# Altium schematic symbol library C-Connector.SchLib: 407 symbols (part 2 of 4)
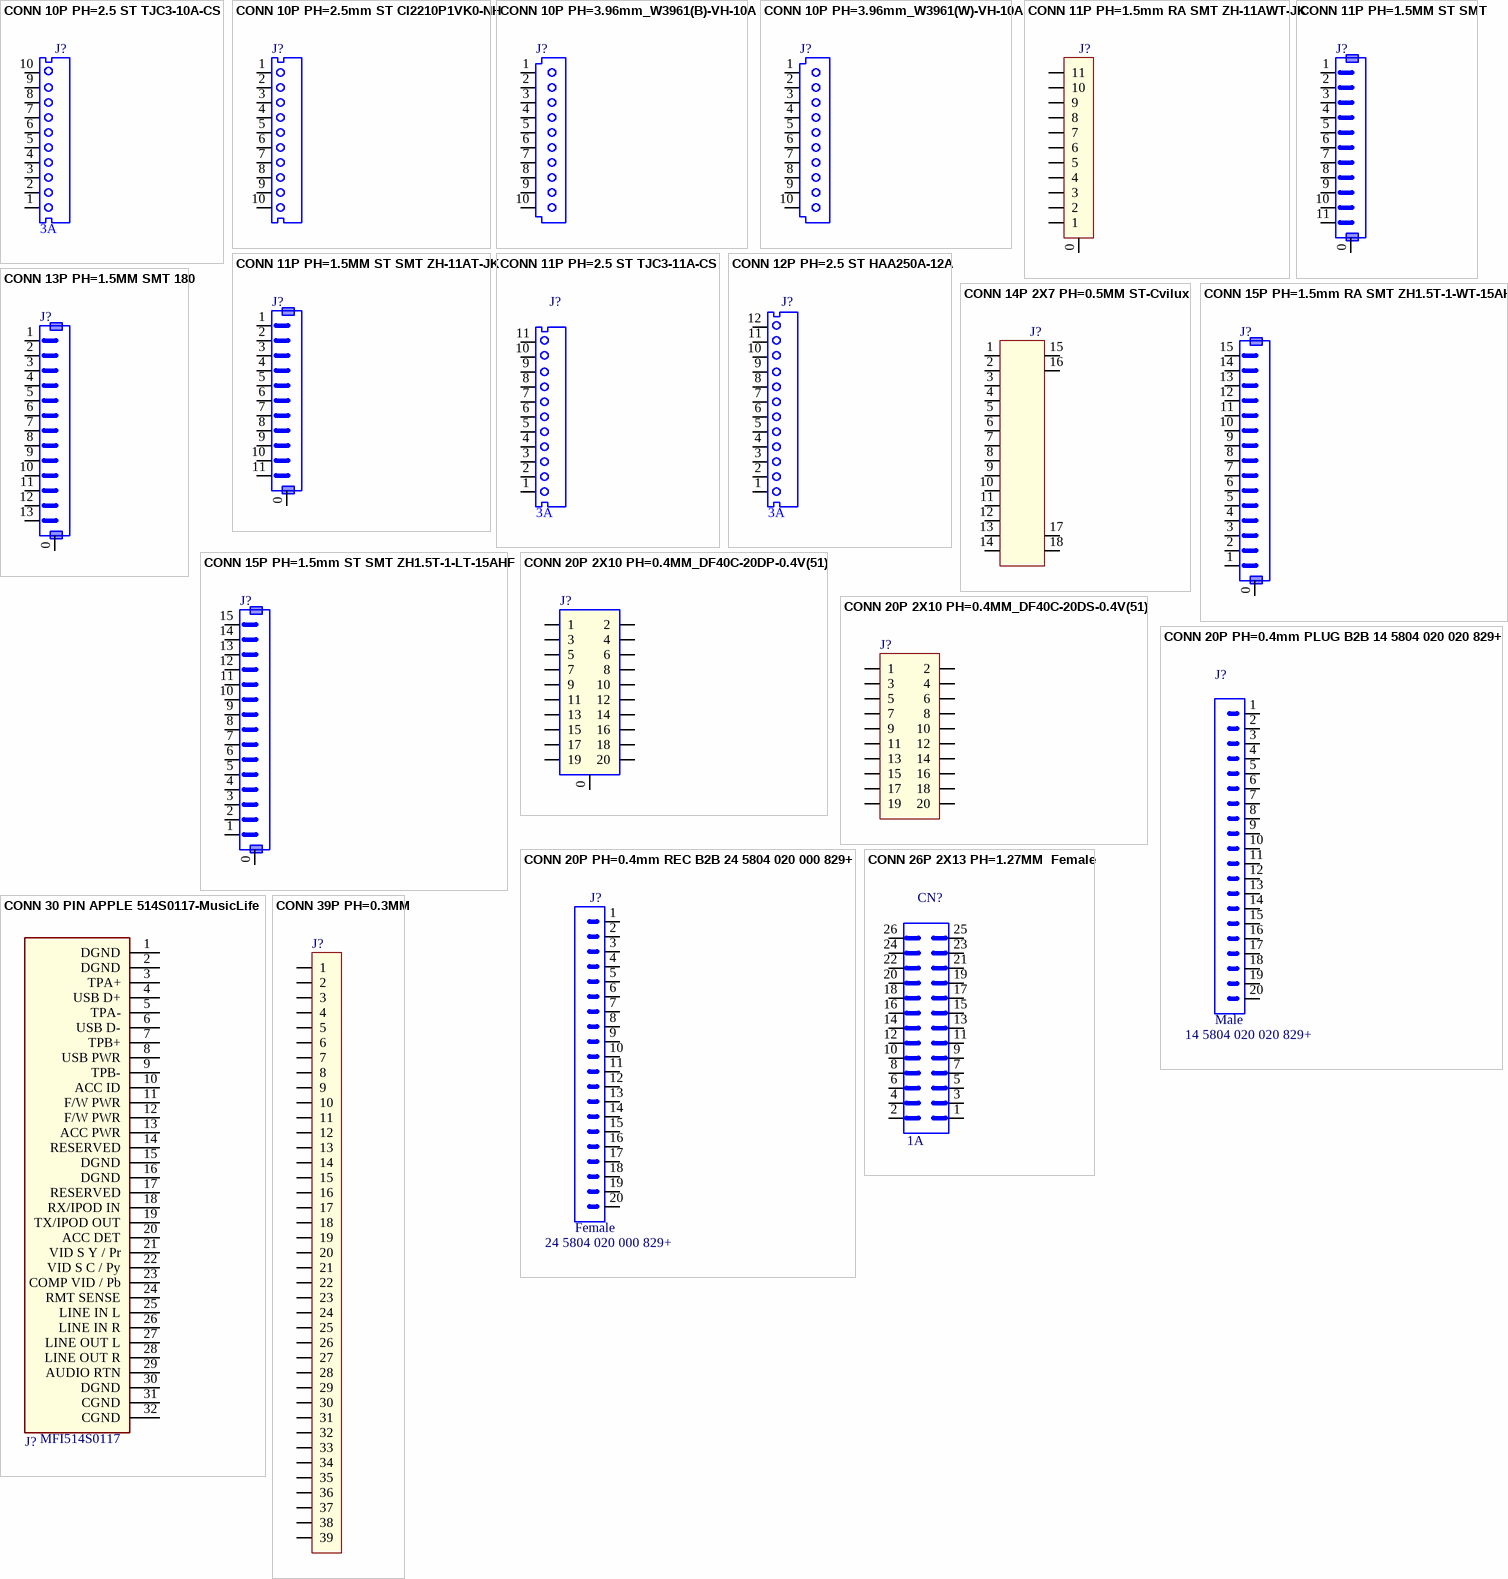
[diagram p15: symbols CONN 10P PH=2.5 ST TJC3-10A-CS to CONN 39P PH=0.3MM]

## CONN 11P PH=1.5MM ST SMT ZH-11AT-JK
designator J?, comment T690300109300  (value not drawn)
SMT CONNECTOR 11PIN P=1.5MM 90 NICKEL G; MFG Part: ZH-11AT-JK; CREATE_NAME: Nathan; MFG: JINJIA; CURRENT: 1.5A; DIP&SMD: SMD; CREATE_TIME: 12-Sep-2017; SAP: T690300109300; Vendor Name: *; Vendor code: *; Type: *; Package: *
footprint CONN 11P PH=1.5MM ST SMT ZH-11AT-JK (SMT CONNECTOR 11PIN P=1.5mm 90'单排镀锡)
pins: 0, 1, 2, 3, 4, 5, 6, 7, 8, 9, 10, 11

## CONN 11P PH=2.5 ST TJC3-11A-CS
designator J?, comment Current: 3A  (hidden comment: T690300109800)
CONNECTER 11PIN P=2.54 DIP180° K; MFG Part: TJC3-11A-CS; Value: 2.5mm; MFG: JINJIA; CREATE_NAME: Nathan; DIP&SMD: DIP; SAP: T690300109800; Vendor Name: *; Vendor Code: *; Type: Connector; CREATE_TIME: 11-Sep-2017
footprint CONN 11P PH=2.5 ST TJC3-11A-CS (GP CONNECTOR 11PIN P=2.5)
pins: 1, 2, 3, 4, 5, 6, 7, 8, 9, 10, 11

## CONN 12P PH=2.5 ST HAA250A-12A
designator J?, comment Current: 3A  (hidden comment: T690300029300)
CONNECTOR 12 PIN P:2.5MM P2.54-12 K; MFG Part: HAA250A-12A; Value: 2.5mm; MFG: 金科基; CREATE_NAME: Nathan; DIP&SMD: DIP; SAP: T690300029300; Vendor Name: *; Vendor Code: *; Type: Connector; CREATE_TIME: 10-Aug-2017
footprint CONN 12P PH=2.5 ST HAA250A-12A (GP CONNECTOR 12PIN P=2.5)
pins: 1, 2, 3, 4, 5, 6, 7, 8, 9, 10, 11, 12

## CONN 13P PH=1.5MM SMT 180
designator J?, comment CNC150020-0713  (value not drawn)
CONNECTOR 13PIN P=1.5mm 90'单排 GOLD 1.5T-LT-13A; CREATE_NAME: Tom; SAP: T690300047000; MFG: 金科基; CURRENT: 1.5A; DIP&SMD: SMD; CREATE_TIME: 12-May-2015; MFG Part: *; Vendor Name: *; Vendor code: *; Type: *; Package: *
footprint CONN 13P PH=1.5MM SMT 180 (SMT CONNECTOR 13PIN P=1.5mm 90'单排镀锡)
pins: 0, 1, 2, 3, 4, 5, 6, 7, 8, 9, 10, 11, 12, 13

## CONN 14P 2X7 PH=0.5MM ST-Cvilux
designator J?, comment T690300062300  (value not drawn)
CON\CF2014_.5MM_HLD_1 G; MFG Part: CF20141V0R0-NH; MFG: 瀚荃; Value: 0.5mm; CREATE_NAME: Tom; DIP&SMD: SMD; SAP: T690300062300; Vendor Name: *; Vendor Code: *; Tolerance: *; Type: Connector; CREATE_TIME: 26-Feb-2016
footprint CONN 14P 2X7 PH=0.5MM ST-Cvilux
pins: 1, 2, 3, 4, 5, 6, 7, 8, 9, 10, 11, 12, 13, 14, 15, 16, 17, 18

## CONN 15P PH=1.5mm RA SMT ZH1.5T-1-WT-15AHF
designator J?, comment T690300136800  (value not drawn)
CONNECTOR 15PIN 1.5MM M180 JRC L; MFG Part: ZH1.5T-1-WT-15AHF; CREATE_NAME: Nathan; DIP&SMD: SMD; Value: 1.5mm; SAP: T690300136800; MFG: JRC; Vendor Name: *; Vendor Code: *; Type: Connector; CREATE_TIME: 28-Mar-2018; Current: *
footprint CONN 15P PH=1.5mm RA SMT ZH1.5T-1-WT-15AHF (GP CHIP CONNECTOR 15P PH=1.5mm H37mm)
pins: 0, 1, 2, 3, 4, 5, 6, 7, 8, 9, 10, 11, 12, 13, 14, 15

## CONN 15P PH=1.5mm ST SMT ZH1.5T-1-LT-15AHF
designator J?, comment T690300136600  (value not drawn)
CONNECTOR 15PIN 1.5MM M90 JRC L; MFG Part: ZH1.5T-1-LT-15AHF; CREATE_NAME: Nathan; DIP&SMD: SMD; Value: 1.5mm; SAP: T690300136600; MFG: JRC; Vendor Name: *; Vendor Code: *; Type: Connector; CREATE_TIME: 28-Mar-2018; Current: *
footprint CONN 15P PH=1.5mm ST SMT ZH1.5T-1-LT-15AHF (GP CHIP CONNECTOR 15P PH=1.5mm H5mm)
pins: 0, 1, 2, 3, 4, 5, 6, 7, 8, 9, 10, 11, 12, 13, 14, 15

## CONN 20P 2X10 PH=0.4MM_DF40C-20DP-0.4V(51)
designator J?, comment T690300164500  (value not drawn)
CONN 2*10P P0.4 DF40C-20DP-0.4V(51) K; CREATE_NAME: Tom; MFG: HIROSE; DIP&SMD: SMD; CREATE_TIME: 10-Apr-2019; MFG Part: DF40C-20DP-0.4V(51); SAP: T690300164500; Type: Connector
footprint CONN 20P 2X10 PH=0.4MM_DF40C-20DP-0.4V(51)
pins: 0, 1, 2, 3, 4, 5, 6, 7, 8, 9, 10, 11, 12, 13, 14, 15, 16, 17, 18, 19, 20

## CONN 20P 2X10 PH=0.4MM_DF40C-20DS-0.4V(51)
designator J?, comment T690300164700  (value not drawn)
CONN 2*10P P0.4 DF40C-20DS-0.4V(51) K; CREATE_NAME: Tom; MFG: HIROSE; DIP&SMD: SMD; CREATE_TIME: 10-Apr-2019; MFG Part: DF40C-20DS-0.4V(51); SAP: T690300164700; Type: Connector
footprint CONN 20P 2X10 PH=0.4MM_DF40C-20DS-0.4V(51)
pins: 1, 2, 3, 4, 5, 6, 7, 8, 9, 10, 11, 12, 13, 14, 15, 16, 17, 18, 19, 20

## CONN 20P PH=0.4mm PLUG B2B 14 5804 020 020 829+
designator J?, comment MFG Part: 14 5804 020 020 829+  Remark: Male  (hidden comment: T690300129500)
PLUG 20PIN0.5MM BTB MALE FPC CONNECTOR K; MFG: KYOCERA; CREATE_NAME: Nathan; DIP&SMD: SMD; SAP: T690300129500; Current: *; Type: Connector; CREATE_TIME: 22-Jan-2018
footprint CONN 20P PH=0.4mm PLUG B2B 14 5804 020 020 829+ (SERIES 5804 PLUG 0.4mm PITCH BOARD TO BOARD H=0.9 PRESS-FIT 14 5804 020 020 829+)
pins: 1, 2, 3, 4, 5, 6, 7, 8, 9, 10, 11, 12, 13, 14, 15, 16, 17, 18, 19, 20

## CONN 20P PH=0.4mm REC B2B 24 5804 020 000 829+
designator J?, comment MFG Part: 24 5804 020 000 829+  Remark: Female  (hidden comment: T690300129600)
REC 20PIN 0.5MM BTB FEMALE FPC CONNECT K; MFG: KYOCERA; CREATE_NAME: Nathan; DIP&SMD: SMD; SAP: T690300129600; Current: *; Type: Connector; CREATE_TIME: 22-Jan-2018
footprint CONN 20P PH=0.4mm REC B2B 24 5804 020 000 829+ (SERIES 5804 REC SLIM-TYPE 0.4mm PITCH BOARD TO BOARD h=0.9  24 5804 020 000 829+)
pins: 1, 2, 3, 4, 5, 6, 7, 8, 9, 10, 11, 12, 13, 14, 15, 16, 17, 18, 19, 20

## CONN 26P 2X13 PH=1.27MM  Female
designator CN?, comment Current: 1A  (hidden comment: CNC127010-0626)
CHIP CONNECTOR 26PIN 1.27P 90' 带内柱; MFG Part: CONN 26P 2X13 PH=1.27MM  Female; SAP: T690300017900; MFG: ShenZhen JRConn Electronics; CREATE_NAME: Evan@Deftronics; DIP&SMD: SMD; Vendor Name: *; Vendor Code: *; CREATE_TIME: 16-Jul-2014; Type: Connector; Value: *
footprint CONN 26P 2X13 PH=1.27MM  Female
pins: 1, 2, 3, 4, 5, 6, 7, 8, 9, 10, 11, 12, 13, 14, 15, 16, 17, 18, 19, 20, 21, 22, 23, 24, 25, 26

## CONN 30 PIN APPLE 514S0117-MusicLife
designator J?, comment MFG Part: MFI514S0117  (hidden comment: CJFA30001-5003)
IPOD CONNECTOR SMD 30P 0.5mm Music Life; SAP: T690300042200; Vendor Code: 10020189; Vendor Name: AVNET ASIA PTE LTD,TAIWAN BRANCH; MFG: AVNET; Type: Connector; DIP&SMD: SMD
footprint CONN APPLE 514S0117 (Apple 30 PIN APPLE 514S0117 15 DEG VERT UNIVERSAL DOCK)
pins: 1 DGND, 2 DGND, 3 TPA+, 4 USB D+, 5 TPA-, 6 USB D-, 7 TPB+, 8 USB PWR, 9 TPB-, 10 ACC ID, 11 F/W PWR, 12 F/W PWR, 13 ACC PWR, 14 RESERVED, 15 DGND, 16 DGND, 17 RESERVED, 18 RX/IPOD IN, 19 TX/IPOD OUT, 20 ACC DET, 21 VID S Y / Pr, 22 VID S C / Py, 23 COMP VID / Pb, 24 RMT SENSE, 25 LINE IN L, 26 LINE IN R, 27 LINE OUT L, 28 LINE OUT R, 29 AUDIO RTN, 30 DGND, 31 CGND, 32 CGND

## CONN 39P PH=0.3MM
designator J?, comment T690300159500  (value not drawn)
F302-39115 K; Value: 0.3mm; MFG: YAQI; CREATE_NAME: Tom; DIP&SMD: SMD; SAP: T690300159500; MFG Part: F302-39115; Vendor Name: *; Vendor Code: *; Type: Connector; CREATE_TIME: 23-Jan-2019
footprint CONN 39P PH=0.3MM
pins: 1, 2, 3, 4, 5, 6, 7, 8, 9, 10, 11, 12, 13, 14, 15, 16, 17, 18, 19, 20, 21, 22, 23, 24, 25, 26, 27, 28, 29, 30, 31, 32, 33, 34, 35, 36, 37, 38, 39

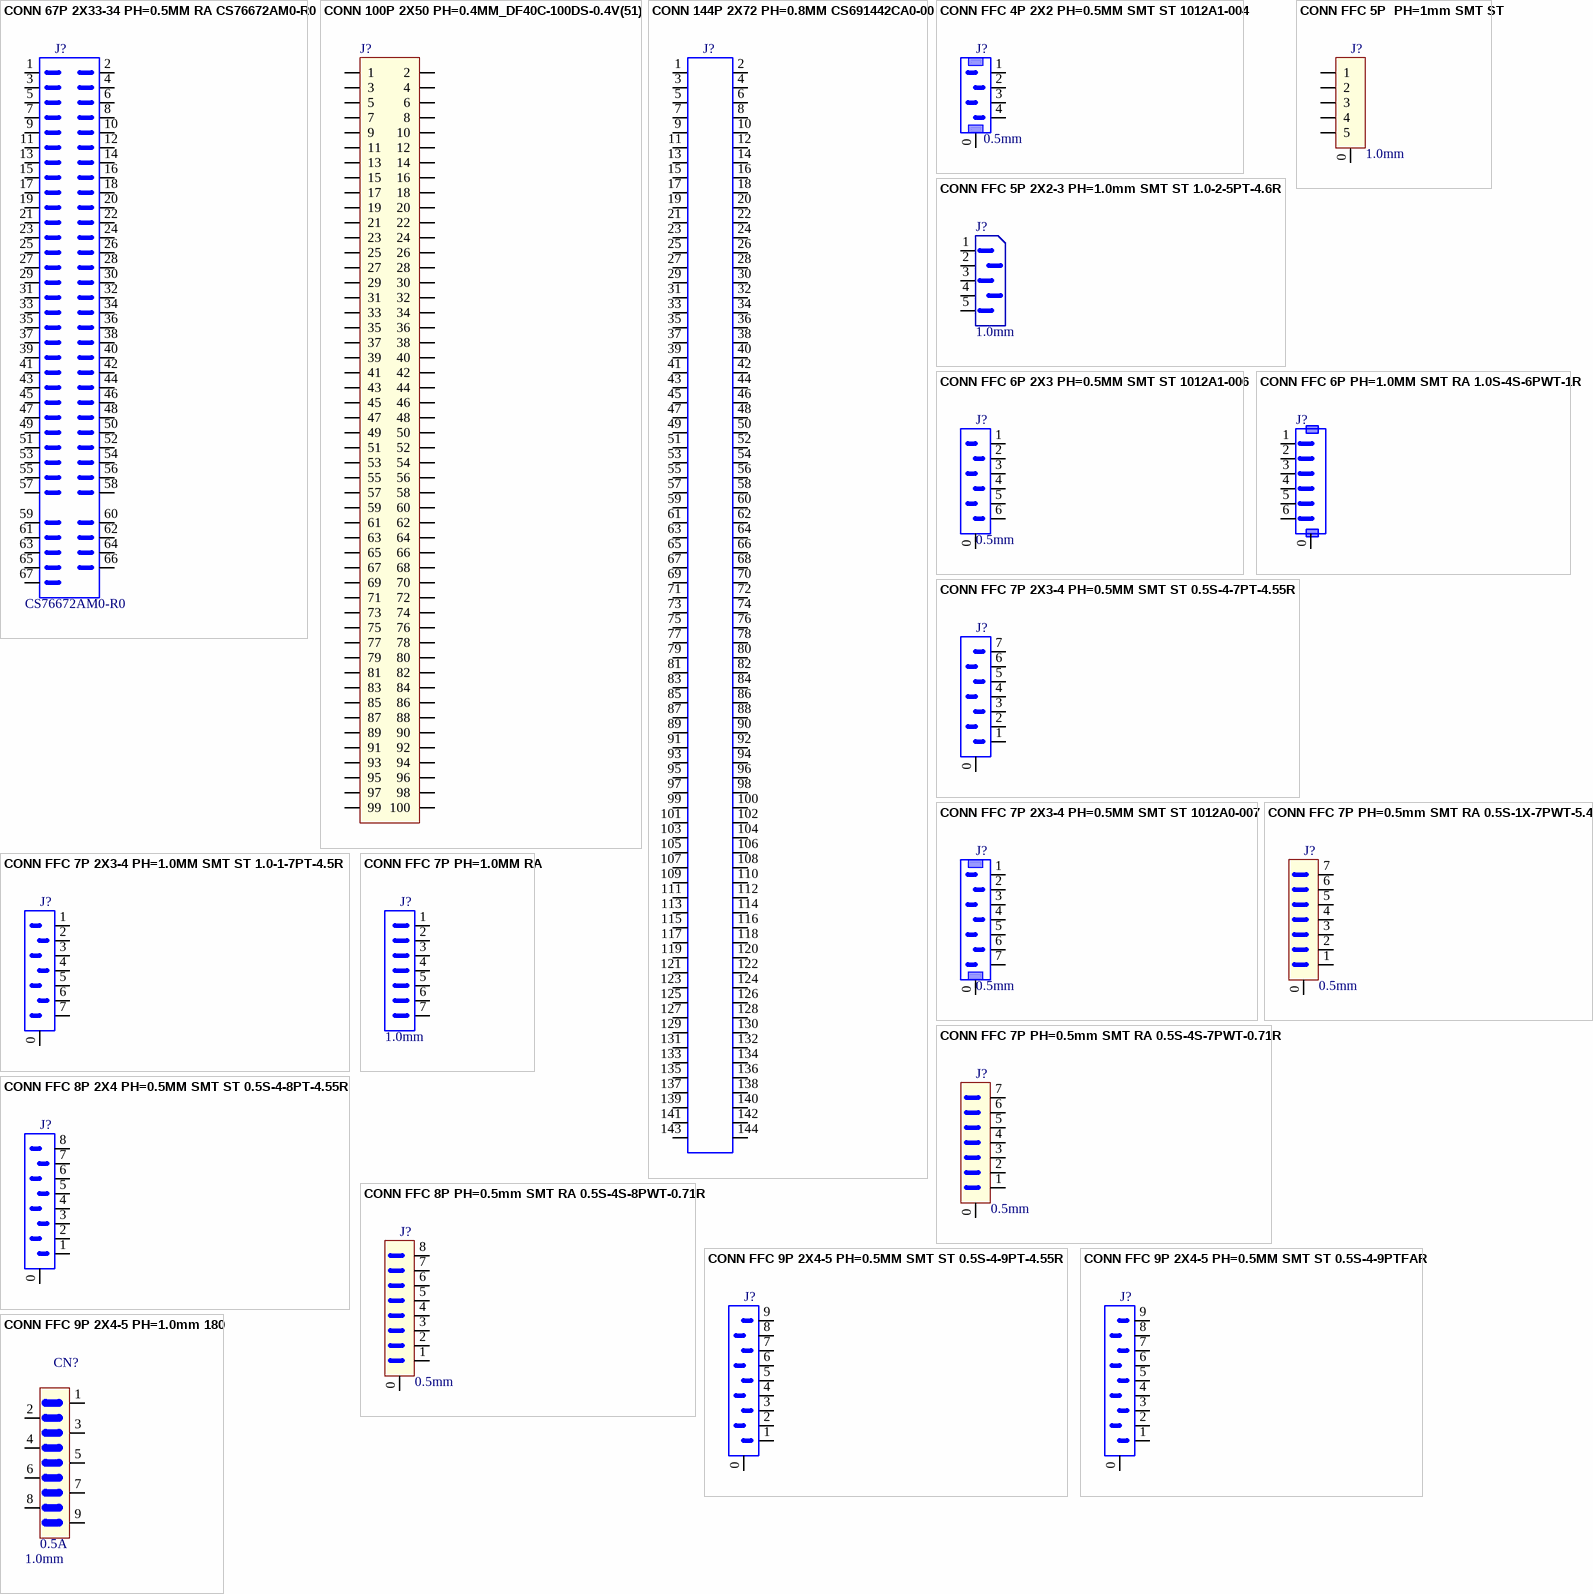
[diagram p4: symbols CONN 67P 2X33-34 PH=0.5MM RA CS76672AM0-R0 to CONN FFC 9P 2X4-5 PH=1.0mm 180]

## CONN 67P 2X33-34 PH=0.5MM RA CS76672AM0-R0
designator J?, comment MFG Part: CS76672AM0-R0  (hidden comment: T690300108100)
SOCKET 67PIN P0.5 CS76672AM0-R0 K; MFG: CviLux; CREATE_NAME: Nathan; DIP&SMD: SMD; Vendor Code: *; Vendor Name: *; TYPE: Connector; CREATE_TIME: 18-Apr-2017; SAP: T690300108100
footprint CONN 67P 2X33-34 PH=0.5MM CS76672AM0-R0 (NGFF Connectors SOCKET. (67Pin.))
pins: 1, 2, 3, 4, 5, 6, 7, 8, 9, 10, 11, 12, 13, 14, 15, 16, 17, 18, 19, 20, 21, 22, 23, 24, 25, 26, 27, 28, 29, 30, 31, 32, 33, 34, 35, 36, 37, 38, 39, 40, 41, 42, 43, 44, 45, 46, 47, 48, 49, 50, 51, 52, 53, 54, 55, 56, 57, 58, 59, 60, 61, 62, 63, 64, 65, 66, 67

## CONN 100P 2X50 PH=0.4MM_DF40C-100DS-0.4V(51)
designator J?, comment T690300164800  (value not drawn)
CONN 2*50P P0.4 DF40C-100DS-0.4V(51) K; CREATE_NAME: Tom; MFG: HIROSE; DIP&SMD: SMD; CREATE_TIME: 10-Apr-2019; MFG Part: DF40C-100DS-0.4V(51); SAP: T690300164800; Type: Connector
footprint CONN 100P 2X50 PH=0.4MM_DF40C-100DS-0.4V(51)
pins: 1, 2, 3, 4, 5, 6, 7, 8, 9, 10, 11, 12, 13, 14, 15, 16, 17, 18, 19, 20, 21, 22, 23, 24, 25, 26, 27, 28, 29, 30, 31, 32, 33, 34, 35, 36, 37, 38, 39, 40, 41, 42, 43, 44, 45, 46, 47, 48, 49, 50, 51, 52, 53, 54, 55, 56, 57, 58, 59, 60, 61, 62, 63, 64, 65, 66, 67, 68, 69, 70, 71, 72, 73, 74, 75, 76, 77, 78, 79, 80, 81, 82, 83, 84, 85, 86, 87, 88, 89, 90, 91, 92, 93, 94, 95, 96, 97, 98, 99, 100

## CONN 144P 2X72 PH=0.8MM CS691442CA0-00
designator J?, comment T690300108200  (value not drawn)
DDR SO-DIMM SOCKET 144P 2X72 PH=0.8MM CS691442CA0-00; MFG: CviLux; CREATE_NAME: Nathan; DIP&SMD: SMD; Vendor Code: *; Vendor Name: *; TYPE: Connector; CREATE_TIME: 14-Apr-2017; SAP: T690300108200; MFG Part: CS691442CA0-00
footprint CONN 144P 2X72 PH=0.8MM CS691442CA0-00 (DDR S.O DIMM SOCKET. (144Pin.))
pins: 1, 2, 3, 4, 5, 6, 7, 8, 9, 10, 11, 12, 13, 14, 15, 16, 17, 18, 19, 20, 21, 22, 23, 24, 25, 26, 27, 28, 29, 30, 31, 32, 33, 34, 35, 36, 37, 38, 39, 40, 41, 42, 43, 44, 45, 46, 47, 48, 49, 50, 51, 52, 53, 54, 55, 56, 57, 58, 59, 60, 61, 62, 63, 64, 65, 66, 67, 68, 69, 70, 71, 72, 73, 74, 75, 76, 77, 78, 79, 80, 81, 82, 83, 84, 85, 86, 87, 88, 89, 90, 91, 92, 93, 94, 95, 96, 97, 98, 99, 100, 101, 102, 103, 104, 105, 106, 107, 108, 109, 110, 111, 112, 113, 114, 115, 116, 117, 118, 119, 120, 121, 122, 123, 124, 125, 126, 127, 128, 129, 130, 131, 132, 133, 134, 135, 136, 137, 138, 139, 140, 141, 142, 143, 144

## CONN FFC 4P 2X2 PH=0.5MM SMT ST 1012A1-004
designator J?, comment value 0.5mm  (hidden comment: T690300113600)
FFC\FPC 4PIN P0.5 1012A1-004-1P1 K; MFG: 金科基; CREATE_NAME: Nathan; Current: 0.5A; DIP&SMD: SMD; SAP: T690300113600; MFG Part: 1012A1-004-1P1; Vendor Name: *; Vendor Code: *; Type: Connector; CREATE_TIME: 28-July-2015
footprint CONN FPC 4P 2X2 PH=0.5mm SMT ST 1012A1-004 (GP CHIP CONNECTOR 4P PH=0.5mm H4.65mm)
pins: 0, 1, 2, 3, 4

## CONN FFC 5P 2X2-3 PH=1.0mm SMT ST 1.0-2-5PT-4.6R
designator J?, comment value 1.0mm  (hidden comment: T690300128900)
CHIP CONNECTOR 5PIN P:1.0MM 90 K; MFG Part: 1.0-2-5PT-4.6R; MFG: 金佳; CREATE_NAME: Nathan; DIP&SMD: SMD; SAP: T690300128900; Vendor Code: *; Vendor Name: *; CREATE_TIME: 28-Dec-2017; Type: Connector; Voltage: *; Current: *
footprint CONN FFC 5P 2X2-3 PH=1.0mm SMT ST 1.0-2-5PT-4.6R (CHIP CONNECTOR 5P P=1.0mm SMT ST)
pins: 1, 2, 3, 4, 5

## CONN FFC 5P  PH=1mm SMT ST
designator J?, comment value 1.0mm  (hidden comment: T690300096200)
CHIP CONNECTOR FFC 5P P:1.0MM 90 G; MFG Part: 1.0-1-5PT-4.5R; MFG: 金佳电子; CREATE_NAME: Tom; DIP&SMD: SMD; SAP: T690300096200; Vendor Name: *; Vendor Code: *; CREATE_TIME: 22-Dec-2016; Type: Connector; Current: *
footprint CONN FFC 5P  PH=1mm SMT ST
pins: 0, 1, 2, 3, 4, 5

## CONN FFC 6P 2X3 PH=0.5MM SMT ST 1012A1-006
designator J?, comment value 0.5mm  (hidden comment: T690300105800)
SMT CONNECTOR 0.5MM 6PIN 90° K; MFG Part: 1012A1-006-1P1; MFG: 金科基; CREATE_NAME: Nathan; Current: 0.5A; DIP&SMD: SMD; SAP: T690300105800; Vendor Name: *; Vendor Code: *; Type: Connector; CREATE_TIME: 06-Mar-2015; Customer Specific: N/A
footprint CONN FFC 6P 2X3 PH=0.5mm SMT ST 1012A1-006 (GP CHIP CONNECTOR 6P PH=0.5mm H5.45mm)
pins: 0, 1, 2, 3, 4, 5, 6

## CONN FFC 6P PH=1.0MM SMT RA 1.0S-4S-6PWT-1R
designator J?, comment T690300144100  (value not drawn)
FFC\FPC 6PIN P1.0 F\90 1.0S-4S-6PWT-1R K; Value: 1.0mm; MFG: 金佳; CREATE_NAME: Cherry Chen; DIP&SMD: SMD; SAP: T690300144100; MFG Part: 1.0S-4S-6PWT-1R; Vendor Name: *; Vendor Code: *; Type: Connector; CREATE_TIME: 2018-06-08
footprint CONN FFC 6P PH=1mm SMT RA 1.0S-4S-6PWT-1R (CONN FFC 6P PH=1mm SMT RA)
pins: 0, 1, 2, 3, 4, 5, 6

## CONN FFC 7P 2X3-4 PH=0.5MM SMT ST 0.5S-4-7PT-4.55R
designator J?, comment T690300146600  (value not drawn)
CONNECTOR 7PIN P=0.5MM 90° JINJIA SMD K; MFG Part: 0.5S-4-7PT-4.55R; MFG: 金佳; CREATE_NAME: Nathan; Current: 0.5A; Value: 0.5mm; SAP: T690300146600; Vendor Name: *; Vendor Code: *; Type: Connector; CREATE_TIME: 09-July-2018; DIP&SMD: SMD
footprint CONN FFC 7P PH=0.5MM SMT ST 0.5S-4-7PT-4.55R (CHIP FFC CONNECTOR 7PIN 0.5P ST)
pins: 0, 1, 2, 3, 4, 5, 6, 7

## CONN FFC 7P 2X3-4 PH=0.5MM SMT ST 1012A0-007
designator J?, comment value 0.5mm  (hidden comment: T690300052200)
CONNECTOR 7PIN P=0.5MM 90° SMD G; MFG Part: 1012A0-007-1P1; MFG: 金瑞康; CREATE_NAME: Nathan; Current: 0.5A; SAP: T690300052200; Vendor Name: *; Vendor Code: *; Type: Connector; CREATE_TIME: 17-Sep-2015; DIP&SMD: SMD
footprint CONN FFC 7P 2X3-4 PH=0.5mm SMT ST 1012A0-007 (GP CHIP CONNECTOR 7P PH=0.5mm H4.63mm)
pins: 0, 1, 2, 3, 4, 5, 6, 7

## CONN FFC 7P 2X3-4 PH=1.0MM SMT ST 1.0-1-7PT-4.5R
designator J?, comment T690300101300  (value not drawn)
CHIP CONNECTOR FFC 7P P:1.0MM 90; MFG Part: 1.0-1-7PT-4.5R; MFG: 金佳; CREATE_NAME: Joe Chen; Current: 0.5A; Value: 1.0mm; DIP&SMD: SMD; SAP: T690300101300; Vendor Name: *; Vendor Code: *; Type: Connector; CREATE_TIME: 13-Feb-2017
footprint CONN FFC 7P 2X3-4  PH=1.0mm SMT ST 1.0-1-7PT-4.5 (CONN FFC 7P DR 90' 1.0-1-7PT-4.5)
pins: 0, 1, 2, 3, 4, 5, 6, 7

## CONN FFC 7P PH=0.5mm SMT RA 0.5S-1X-7PWT-5.4R
designator J?, comment value 0.5mm  (hidden comment: T690300153400)
CONNECTOR FFC 7P P:0.5MM 180; MFG Part: 0.5S-1X-7PWT-5.4R; MFG: 金佳; CREATE_NAME: Nathan; DIP&SMD: SMD; Vendor Code: *; Vendor Name: *; TYPE: Connector; CREATE_TIME: 11-OCT-2018; SAP: T690300153400; Current: *
footprint CONN FFC 7P PH=0.5mm SMT RA 0.5S-1X-7PWT-5.4R (SMD FFC CONNECTOR 7P P=0.5mm RA SR)
pins: 0, 1, 2, 3, 4, 5, 6, 7

## CONN FFC 7P PH=0.5mm SMT RA 0.5S-4S-7PWT-0.71R
designator J?, comment value 0.5mm  (hidden comment: T690300146500)
CONNECTOR 7PIN P=0.5MM 180' JINJIA SMD K; MFG Part: 0.5S-4S-7PWT-0.71R; MFG: 金佳; CREATE_NAME: Nathan; Current: 0.5A; Vendor Code: *; Vendor Name: *; TYPE: Connector; CREATE_TIME: 09-July-2018; SAP: T690300146500; DIP&SMD: SMD
footprint CONN FFC 7P PH=0.5mm SMT RA 0.5S-4S-7PWT-0.71R (SMD FFC CONNECTOR 7P P=0.5mm RA SR)
pins: 0, 1, 2, 3, 4, 5, 6, 7

## CONN FFC 7P PH=1.0MM RA
designator J?, comment value 1.0mm  (hidden comment: T690300060200)
7P 1.0 1.0-1-7PWT-5.8 SMD; MFG: 金佳; CREATE_NAME: Tom; SAP: T690300060200; Vendor Name: *; Vendor Code: *; CREATE_TIME: 20-Nov-2015; MFG Part: 1.0 1.0-1-7PWT-5.8 SMD; Type: Connector; Current: *; DIP&SMD: SMD
footprint CONN FFC 7P PH=1.0MM RA
pins: 1, 2, 3, 4, 5, 6, 7

## CONN FFC 8P 2X4 PH=0.5MM SMT ST 0.5S-4-8PT-4.55R
designator J?, comment T690300151000  (value not drawn)
SMT CONNECTOR 0.5MM 8PIN 90° K; MFG Part: 0.5S-4-8PT-4.55R; MFG: 金佳; CREATE_NAME: Nathan; Current: 0.5A; DIP&SMD: SMD; SAP: T690300151000; Vendor Name: *; Vendor Code: *; Type: Connector; CREATE_TIME: 04-Sep-2018; Value: 0.5mm
footprint CONN FFC 8P PH=0.5MM SMT ST 0.5S-4-8PT-4.55R (CHIP FFC CONNECTOR 8PIN 0.5P ST)
pins: 0, 1, 2, 3, 4, 5, 6, 7, 8

## CONN FFC 8P PH=0.5mm SMT RA 0.5S-4S-8PWT-0.71R
designator J?, comment value 0.5mm  (hidden comment: T690300157200)
SMT CONNECTOR 0.5MM 8PIN 90' K; MFG Part: 0.5S-4S-8PWT-0.71R; MFG: 金佳; CREATE_NAME: Nathan; Current: 0.5A; DIP&SMD: SMD; Vendor Code: *; Vendor Name: *; TYPE: Connector; CREATE_TIME: 12-Dec-2018; SAP: T690300157200
footprint CONN FFC 8P PH=0.5mm SMT RA 0.5S-4S-8PWT-0.71R (SMD FFC CONNECTOR 8P P=0.5mm RA SR)
pins: 0, 1, 2, 3, 4, 5, 6, 7, 8

## CONN FFC 9P 2X4-5 PH=0.5MM SMT ST 0.5S-4-9PT-4.55R
designator J?, comment T690300139100  (value not drawn)
9PIN 0.5P 90 K; MFG Part: 0.5S-4-9PT-4.55R; MFG: 金佳; CREATE_NAME: Nathan; Current: 0.5A; Value: 0.5mm; DIP&SMD: SMD; SAP: T690300139100; Vendor Name: *; Vendor Code: *; Type: Connector; CREATE_TIME: 25-Apr-2018
footprint CONN FFC 9P PH=0.5MM SMT ST 0.5S-4-9PT-4.55R (CHIP FFC CONNECTOR 9PIN 0.5P ST)
pins: 0, 1, 2, 3, 4, 5, 6, 7, 8, 9

## CONN FFC 9P 2X4-5 PH=0.5MM SMT ST 0.5S-4-9PTFAR
designator J?, comment T690300163000  (value not drawn)
FFC CONNECTOR 9P 0.5MM GOLD PLATED L; MFG Part: 0.5S-4-9PTFAR; MFG: 金佳; CREATE_NAME: Nathan; Current: 0.5A; DIP&SMD: SMD; SAP: T690300163000; Vendor Name: *; Vendor Code: *; Type: Connector; CREATE_TIME: 19-Mar-2019; Value: 0.5mm
footprint CONN FFC 9P PH=0.5MM SMT ST 0.5S-4-9PTFAR (CHIP FFC CONNECTOR 9PIN 0.5P ST)
pins: 0, 1, 2, 3, 4, 5, 6, 7, 8, 9

## CONN FFC 9P 2X4-5 PH=1.0mm 180
designator CN?, comment value 1.0mm  Current: 0.5A  (hidden comment: CNC100020-0509)
CHIP CONNECTOR FFC 9P P=1.0mm 90'; SAP: T690300016500; Vendor Name: 利民丰; CREATE_NAME: GordonL@Deftronics; DIP&SMD: SMD; MFG: *; CREATE_TIME: 21-Apr-2014; MFG Part: *; Type: Connector
footprint CONN FFC 9P 2X4-5 PH=1.0mm 180 (Connector FFC 9P Pitch 1.0mm Width 2.5mm)
pins: 1, 2, 3, 4, 5, 6, 7, 8, 9

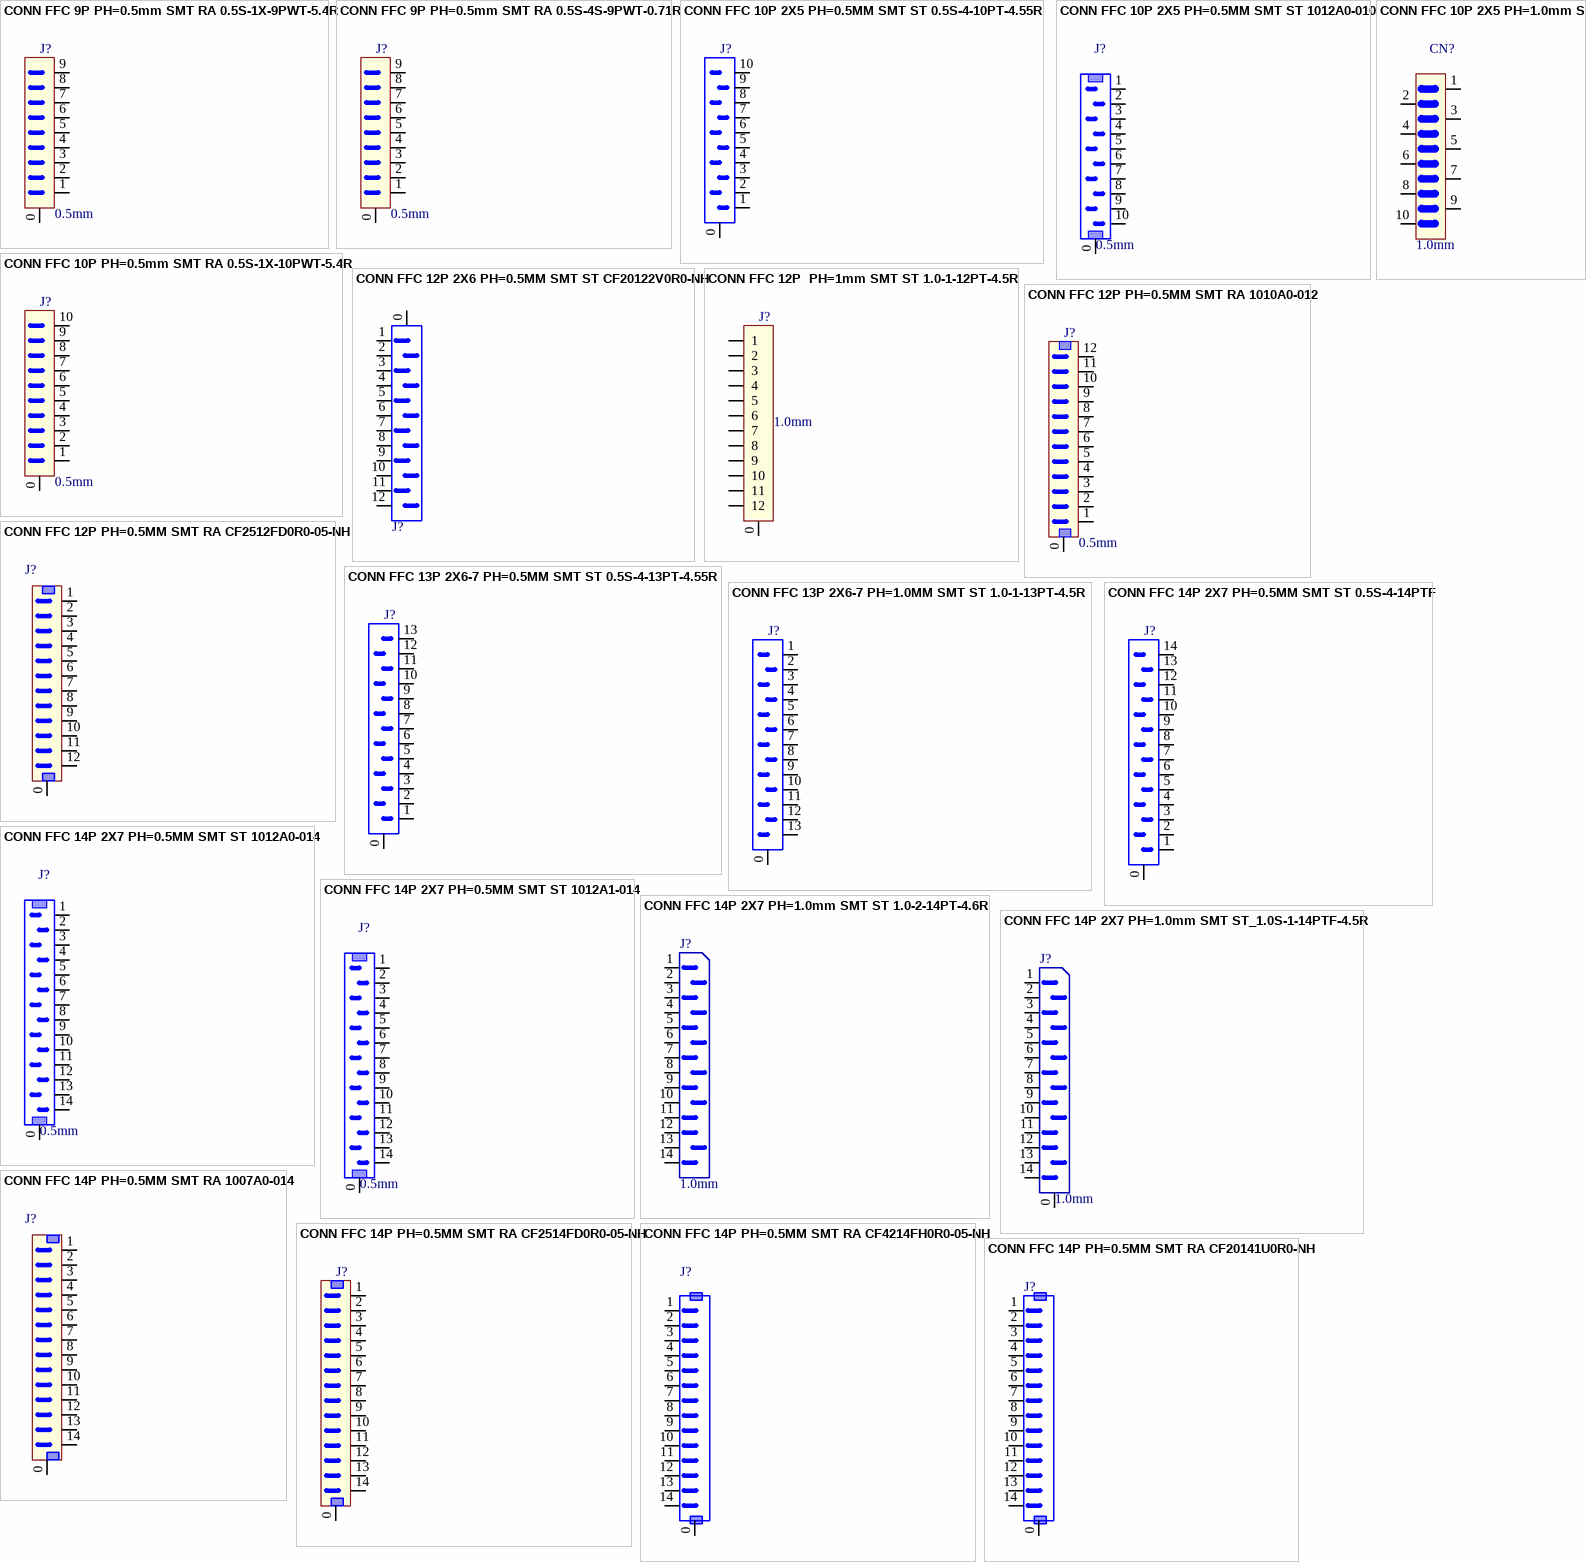
[diagram p5: symbols CONN FFC 9P PH=0.5mm SMT RA 0.5S-1X-9PWT-5.4R to CONN FFC 14P PH=0.5MM SMT RA CF20141U0R0-NH]

## CONN FFC 9P PH=0.5mm SMT RA 0.5S-1X-9PWT-5.4R
designator J?, comment value 0.5mm  (hidden comment: T690300139300)
9PIN 0.5P 180 K; MFG Part: 0.5S-1X-9PWT-5.4R; MFG: 金佳; CREATE_NAME: Nathan; DIP&SMD: SMD; Vendor Code: *; Vendor Name: *; TYPE: Connector; CREATE_TIME: 25-Apr-2018; SAP: T690300139300; Current: *
footprint CONN FFC 9P PH=0.5mm SMT RA 0.5S-1X-9PWT-5.4R (SMD FFC CONNECTOR 9P P=0.5mm RA SR)
pins: 0, 1, 2, 3, 4, 5, 6, 7, 8, 9

## CONN FFC 9P PH=0.5mm SMT RA 0.5S-4S-9PWT-0.71R
designator J?, comment value 0.5mm  (hidden comment: T690300163100)
FFC CONNECTOR 9P 0.5MM GOLD PLATED L; MFG Part: 0.5S-4S-9PWT-0.71R; MFG: 金佳; CREATE_NAME: Nathan; Current: 0.5A; DIP&SMD: SMD; Vendor Code: *; Vendor Name: *; TYPE: Connector; CREATE_TIME: 19-Mar-2019; SAP: T690300163100
footprint CONN FFC 9P PH=0.5mm SMT RA 0.5S-4S-9PWT-0.71R (SMD FFC CONNECTOR 9P P=0.5mm RA SR)
pins: 0, 1, 2, 3, 4, 5, 6, 7, 8, 9

## CONN FFC 10P 2X5 PH=0.5MM SMT ST 0.5S-4-10PT-4.55R
designator J?
CONNECTOR FFC 10P P:0.5MM 90 K; MFG Part: 0.5S-4-10PT-4.55R; MFG: 金佳; CREATE_NAME: Nathan; Current: 0.5A; Value: 0.5mm; DIP&SMD: SMD; SAP: *; Vendor Name: *; Vendor Code: *; Type: Connector; CREATE_TIME: 11-OCT-2018
footprint CONN FFC 10P PH=0.5MM SMT ST 0.5S-4-10PT-4.55R (CHIP FFC CONNECTOR 10PIN 0.5P ST)
pins: 0, 1, 2, 3, 4, 5, 6, 7, 8, 9, 10

## CONN FFC 10P 2X5 PH=0.5MM SMT ST 1012A0-010
designator J?, comment value 0.5mm  (hidden comment: CNC050010-0518)
FFC\FPC 10PIN P0.5 1012A0-010-1P1 K; SAP: T690300125800; MFG: 金科基; CREATE_NAME: Nathan; Current: 0.5A; DIP&SMD: SMD; MFG Part: 1012A0-010-1P1; Vendor Name: *; Vendor Code: *; Type: Connector; CREATE_TIME: 23-Nov-2017
footprint CONN FPC 10P 2X5 PH=0.5mm ST 1012A0-010 (GP CHIP CONNECTOR 10P PH=0.5mm H5.45mm)
pins: 0, 1, 2, 3, 4, 5, 6, 7, 8, 9, 10

## CONN FFC 10P 2X5 PH=1.0mm ST
designator CN?, comment value 1.0mm  (hidden comment: T690300049300)
CHIP CONNECTOR 10P 1.0MM 90 K; MFG: 金佳; CREATE_NAME: Tom; DIP&SMD: SMD; SAP: T690300049300; CREATE_TIME: 17-Jul-2015; MFG Part: *; Type: Connector; Current: *
footprint CONN FFC 10P 2X5 PH=1.0mm ST (Connector FFC 9P Pitch 1.0mm Width 2.5mm)
pins: 1, 2, 3, 4, 5, 6, 7, 8, 9, 10

## CONN FFC 10P PH=0.5mm SMT RA 0.5S-1X-10PWT-5.4R
designator J?  value 0.5mm
10P P=0.5MM 180 K; MFG Part: 0.5S-1X-10PWT-5.4R; MFG: 金佳; CREATE_NAME: Cherry Chen; DIP&SMD: SMD; Vendor Code: *; Vendor Name: *; TYPE: Connector; CREATE_TIME: 2018-07-10; SAP: *; Current: *
footprint CONN FFC 10P PH=0.5mm SMT RA 0.5S-1X-10PWT-5.4R (SMD FFC CONNECTOR 10P P=0.5mm 180'单排)
pins: 0, 1, 2, 3, 4, 5, 6, 7, 8, 9, 10

## CONN FFC 12P 2X6 PH=0.5MM SMT ST CF20122V0R0-NH
designator J?, comment T690300155900  (value not drawn)
FFC CONNECTOR SIDE ENTRY 0.5MM 12P GOL L; MFG Part: CF20122V0R0-NH; MFG: CVILUX(瀚荃); CREATE_NAME: Nathan; DIP&SMD: SMD; Vendor Code: *; Vendor Name: *; TYPE: Connector; CREATE_TIME: 29-Nov-2018; SAP: T690300155900
footprint CONN FFC 12P 2X6 PH=0.5MM ST CF20122V0R0-NH (FFC CONNECTOR SMT 12P P=0.5mm ZIF 2*6PIN)
pins: 0, 1, 2, 3, 4, 5, 6, 7, 8, 9, 10, 11, 12

## CONN FFC 12P  PH=1mm SMT ST 1.0-1-12PT-4.5R
designator J?, comment value 1.0mm  (hidden comment: T690300096300)
CHIP CONNECTOR FFC 12P P:1.0MM 90 K; MFG Part: 1.0-1-12PT-4.5R; MFG: 金佳电子; CREATE_NAME: Tom; DIP&SMD: SMD; SAP: T690300096300; Vendor Name: *; Vendor Code: *; CREATE_TIME: 22-Dec-2016; Type: Connector; Current: *
footprint CONN FFC 12P  PH=1mm SMT ST 1.0-1-12PT-4.5R
pins: 0, 1, 2, 3, 4, 5, 6, 7, 8, 9, 10, 11, 12

## CONN FFC 12P PH=0.5MM SMT RA 1010A0-012
designator J?, comment value 0.5mm  (hidden comment: T690300079900)
SMT CONNECTOR 12PIN P:0.5MM 180 G; MFG Part: 1010A0-012-1P1; MFG: 金科基; CREATE_NAME: Nathan; Current: 0.5A; DIP&SMD: SMD; Vendor Code: *; Vendor Name: *; TYPE: Connector; CREATE_TIME: 02-June-2016; SAP: T690300079900
footprint CONN FFC 12P PH=0.5mm SMT RA 1010A0-012 (SMD FFC CONNECTOR 12P P=0.5mm 180'单排)
pins: 0, 1, 2, 3, 4, 5, 6, 7, 8, 9, 10, 11, 12

## CONN FFC 12P PH=0.5MM SMT RA CF2512FD0R0-05-NH
designator J?, comment T690300155800  (value not drawn)
FFC CONNECTOR SIDE ENTRY 0.5MM 12P GOL L; MFG Part: CF2512FD0R0-05-NH; MFG: CVILUX; CREATE_NAME: Nathan; DIP&SMD: SMD; Vendor Code: *; Vendor Name: *; TYPE: Connector; CREATE_TIME: 29-Nov-2018; SAP: T690300155800
footprint CONN FPC 12P PH=0.5mm SMT RA CF2512FD0R0-05-NH (GP CHIP CONNECTOR 12P PH=0.5mm H2.2mm)
pins: 0, 1, 2, 3, 4, 5, 6, 7, 8, 9, 10, 11, 12

## CONN FFC 13P 2X6-7 PH=0.5MM SMT ST 0.5S-4-13PT-4.55R
designator J?, comment T690300149800  (value not drawn)
0.5PITCH 13PIN 90 K; MFG Part: 0.5S-4-13PT-4.55R; MFG: 金佳; CREATE_NAME: Nathan; Current: 0.5A; Value: 0.5mm; DIP&SMD: SMD; SAP: T690300149800; Vendor Name: *; Vendor Code: *; Type: Connector; CREATE_TIME: 09-Aug-2018
footprint CONN FFC 13P PH=0.5MM SMT ST 0.5S-4-13PT-4.55R (CHIP FFC CONNECTOR 13PIN 0.5P ST)
pins: 0, 1, 2, 3, 4, 5, 6, 7, 8, 9, 10, 11, 12, 13

## CONN FFC 13P 2X6-7 PH=1.0MM SMT ST 1.0-1-13PT-4.5R
designator J?, comment T690300101400  (value not drawn)
CHIP CONNECTOR FFC 13P P:1.0MM 90 G; MFG Part: 1.0-1-13PT-4.5R; MFG: 金佳; CREATE_NAME: Joe Chen; Current: 0.5A; Value: 1.0mm; DIP&SMD: SMD; SAP: T690300101400; Vendor Name: *; Vendor Code: *; Type: Connector; CREATE_TIME: 13-Feb-2017
footprint CONN FFC 13P  PH=1.0mm SMT ST 1.0-1-13PT-4.5R (CONN FFC 13P DR 90' 1.0-1-7PT-4.5)
pins: 0, 1, 2, 3, 4, 5, 6, 7, 8, 9, 10, 11, 12, 13

## CONN FFC 14P 2X7 PH=0.5MM SMT ST 0.5S-4-14PTF
designator J?, comment T690300155500  (value not drawn)
FFC\FPC 14P P0.5 F\90 0.5S-4-14PTF K; MFG: 金佳; CREATE_NAME: Nathan; Current: 0.5A; Value: 0.5mm; DIP&SMD: SMD; SAP: T690300155500; MFG Part: 0.5S-4-14PTF; Vendor Name: *; Vendor Code: *; Type: Connector; CREATE_TIME: 15-Nov-2018
footprint CONN FFC 14P PH=0.5MM SMT ST 0.5S-4-14PTF (CHIP FFC CONNECTOR 14PIN 0.5P ST)
pins: 0, 1, 2, 3, 4, 5, 6, 7, 8, 9, 10, 11, 12, 13, 14

## CONN FFC 14P 2X7 PH=0.5MM SMT ST 1012A0-014
designator J?, comment value 0.5mm  (hidden comment: CNC050010-0114)
SMT CONNECTOR 14Pin P=0.5mm 0.5A-WTX-14P 90' 正位; MFG Part: 1012A0-014-1G1; SAP: T690300022100; MFG: 金科基; CREATE_NAME: Nathan; Current: 0.5A; DIP&SMD: SMD; Vendor Name: *; Vendor Code: *; Type: Connector; CREATE_TIME: 06-Mar-2015
footprint CONN FPC 14P 2X7 PH=0.5mm ST 1012A0-014 (GP CHIP CONNECTOR 14P PH=0.5mm H5.45mm)
pins: 0, 1, 2, 3, 4, 5, 6, 7, 8, 9, 10, 11, 12, 13, 14

## CONN FFC 14P 2X7 PH=0.5MM SMT ST 1012A1-014
designator J?, comment value 0.5mm  (hidden comment: T690300038600)
14PIN 0.5P 90  NICKEL 1012A1-014 G; MFG Part: 1012A1-014-1G1; MFG: 金科基; CREATE_NAME: Nathan; Current: 0.5A; DIP&SMD: SMD; SAP: T690300038600; Vendor Name: *; Vendor Code: *; Type: Connector; CREATE_TIME: 10-Aug-2015
footprint CONN FPC 14P 2X7 PH=0.5mm SMT ST 1012A1-014 (GP CHIP CONNECTOR 14P PH=0.5mm H4.65mm)
pins: 0, 1, 2, 3, 4, 5, 6, 7, 8, 9, 10, 11, 12, 13, 14

## CONN FFC 14P 2X7 PH=1.0mm SMT ST 1.0-2-14PT-4.6R
designator J?, comment value 1.0mm  (hidden comment: T690300127900)
CHIP CONNECTOR 14PIN P:1.0MM 90 K; MFG Part: 1.0-2-14PT-4.6R; MFG: 金佳; CREATE_NAME: Nathan; DIP&SMD: SMD; SAP: T690300127900; Vendor Code: *; Vendor Name: *; CREATE_TIME: 19-Dec-2017; Type: Connector; Voltage: *; Current: *
footprint CONN FFC 14P 2X7 PH=1.0mm SMT ST 1.0-2-14PT-4.6R (CHIP CONNECTOR 14P P=1.0mm ST SMD)
pins: 1, 2, 3, 4, 5, 6, 7, 8, 9, 10, 11, 12, 13, 14

## CONN FFC 14P 2X7 PH=1.0mm SMT ST_1.0S-1-14PTF-4.5R
designator J?, comment value 1.0mm  (hidden comment: T690300127600)
CHIP CONNECTOR 14PIN P:1.0MM 90° K; MFG Part: 1.0S-1-20PTF-4.5R; MFG: JINJIA; CREATE_NAME: Nathan; Current: 0.5A; DIP&SMD: SMD; SAP: T690300127600; Vendor Code: *; Vendor Name: *; CREATE_TIME: 19-Dec-2017; Type: Connector; Voltage: *
footprint CONN FFC 14P 2X7 PH=1.0mm SMT ST_1.0S-1-14PTF-4.5R (CHIP CONNECTOR 14P P=1.0mm ST)
pins: 0, 1, 2, 3, 4, 5, 6, 7, 8, 9, 10, 11, 12, 13, 14

## CONN FFC 14P PH=0.5MM SMT RA 1007A0-014
designator J?, comment CNC050020-0114  (value not drawn)
SMT CONNECTOR 14Pin P=0.5mm 180'; MFG Part: 1007A0-014-1P1; MFG: 金科基; CREATE_NAME: TOM@Deftronics; SAP: T690300015100; DIP&SMD: SMD; Vendor Code: *; Vendor Name: *; TYPE: Connector; CREATE_TIME: 19-Nov-2013
footprint CONN FPC 14P PH=0.5MM SMT (SMT CONNECTOR 14Pin P=0.5mm 180')
pins: 0, 1, 2, 3, 4, 5, 6, 7, 8, 9, 10, 11, 12, 13, 14

## CONN FFC 14P PH=0.5MM SMT RA CF2514FD0R0-05-NH
designator J?, comment T690300156200  (value not drawn)
FFC CONNECTOR SIDE ENTRY 0.5MM 14P GOL L; MFG Part: CF2514FD0R0-05-NH; MFG: CVILUX; CREATE_NAME: Nathan; DIP&SMD: SMD; Vendor Code: *; Vendor Name: *; TYPE: Connector; CREATE_TIME: 29-Nov-2018; SAP: T690300156200
footprint CONN FPC 14P PH=0.5mm SMT RA CF2514FD0R0-05-NH (GP CHIP CONNECTOR 14P PH=0.5mm H2.2mm)
pins: 0, 1, 2, 3, 4, 5, 6, 7, 8, 9, 10, 11, 12, 13, 14

## CONN FFC 14P PH=0.5MM SMT RA CF4214FH0R0-05-NH
designator J?, comment T690300110800  (value not drawn)
FFC\FPC CONN 14PIN CF4214FH0R0-05-NH L; Value: 0.5mm; MFG: CviLux; CREATE_NAME: Nathan; DIP&SMD: SMD; SAP: T690300110800; MFG Part: CF4214FH0R0-05-NH; Vendor Name: *; Vendor Code: *; Type: Connector; CREATE_TIME: 23-May-2017
footprint CONN FFC 14P PH=0.5MM SMT RA CF4214FH0R0-05-NH (CF42 Series 0.5mm H=0.96 SMT ZIF FFC/FPC Connetors)
pins: 0, 1, 2, 3, 4, 5, 6, 7, 8, 9, 10, 11, 12, 13, 14

## CONN FFC 14P PH=0.5MM SMT RA CF20141U0R0-NH
designator J?
FFC\FPC 14PIN P0.5 F\90 CF20141U0R0-NH L; Value: 0.5mm; SAP: T690300062100; MFG: CVILUX(瀚荃); CREATE_NAME: Nathan; DIP&SMD: SMD; MFG Part: CF20141U0R0-NH; Vendor Name: *; Vendor Code: *; Type: Connector; CREATE_TIME: 07-June-2018
footprint CONN FFC 14P PH=0.5MM SMT RA CF20141U0R0-NH (CF20 Series 0.5mm H=2 SMT ZIF FFC/FPC Connetors)
pins: 0, 1, 2, 3, 4, 5, 6, 7, 8, 9, 10, 11, 12, 13, 14

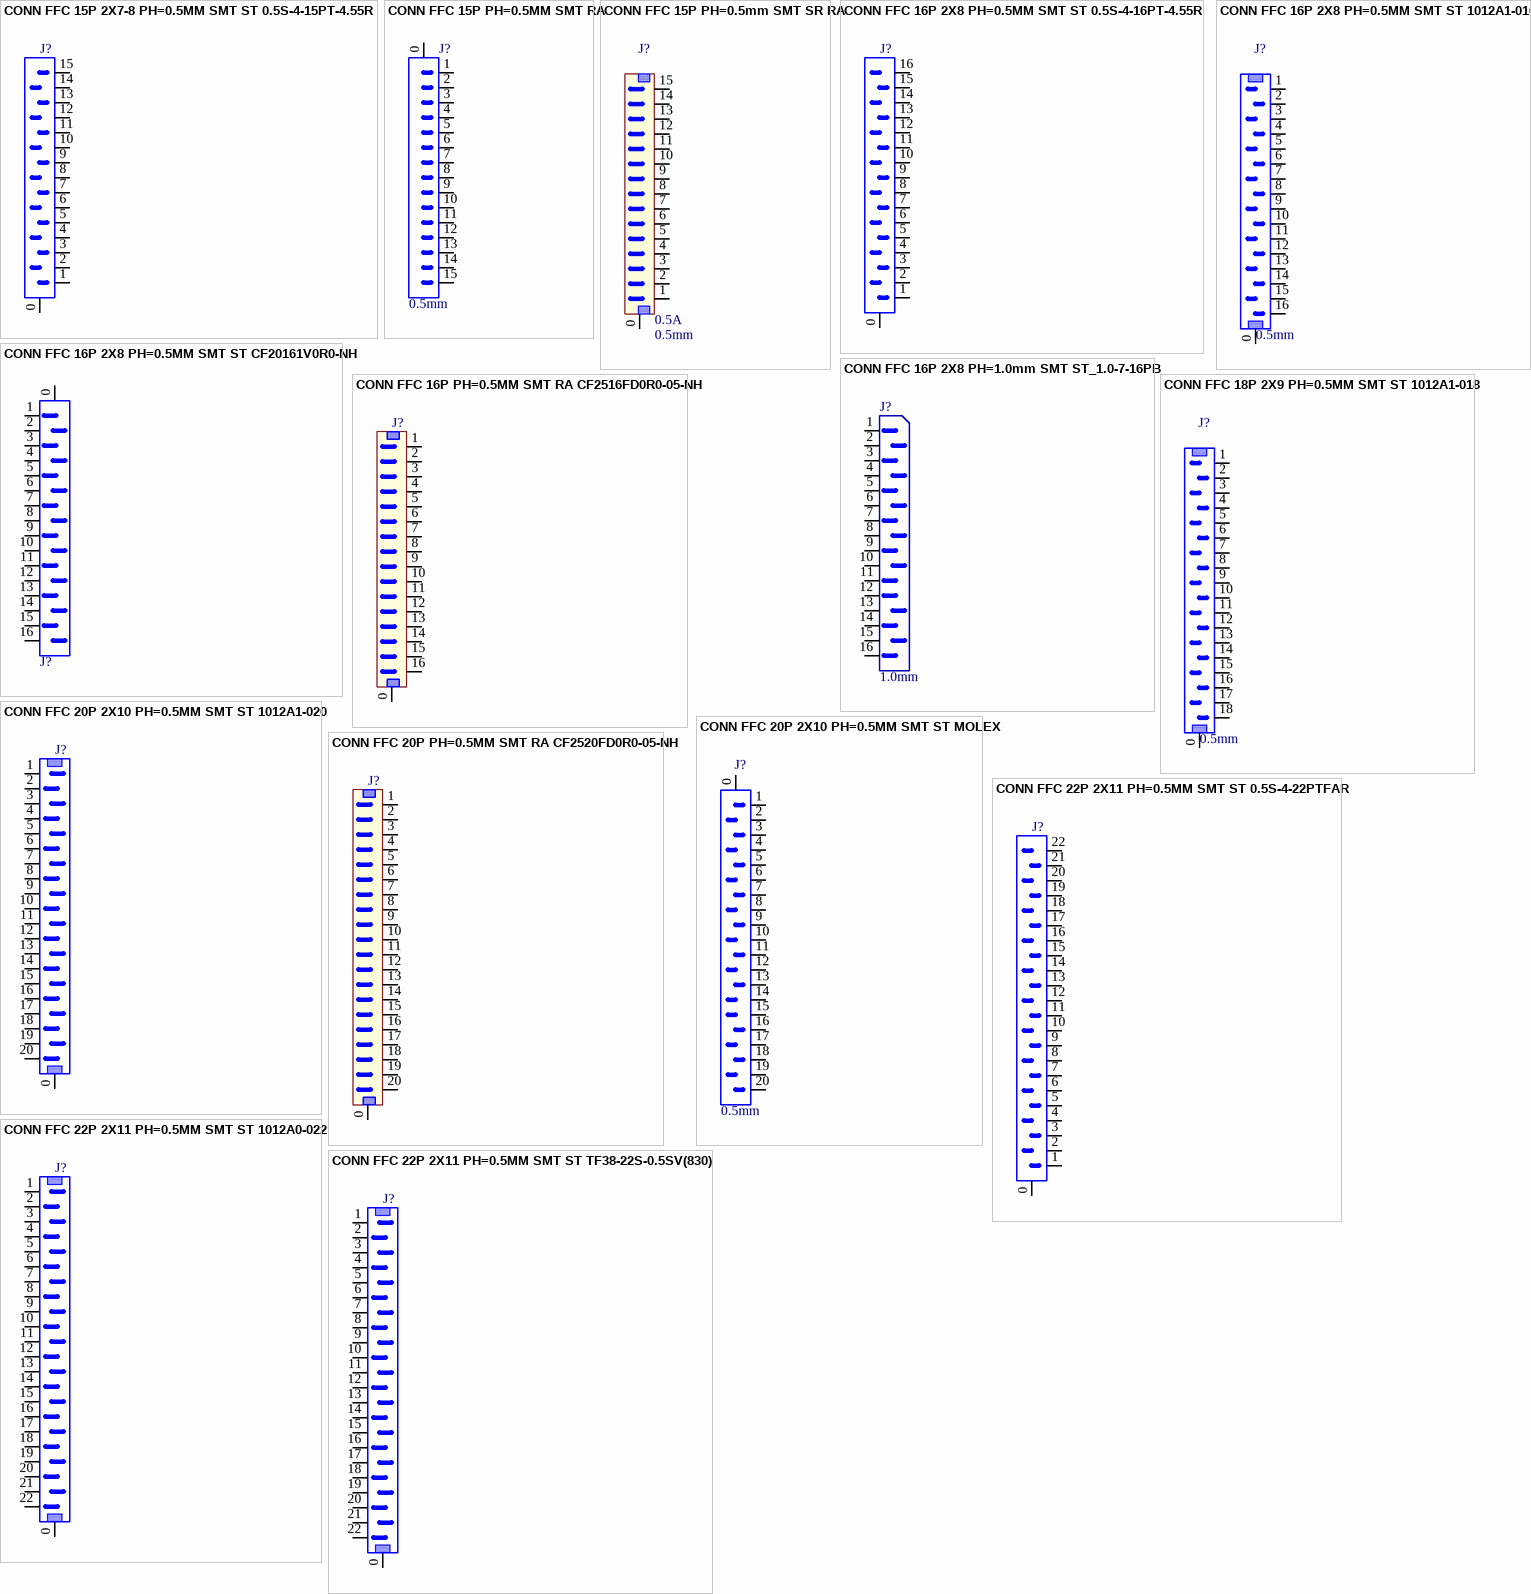
[diagram p6: symbols CONN FFC 15P 2X7-8 PH=0.5MM SMT ST 0.5S-4-15PT-4.55R to CONN FFC 22P 2X11 PH=0.5MM SMT ST TF38-22S-0.5SV(830)]

## CONN FFC 15P 2X7-8 PH=0.5MM SMT ST 0.5S-4-15PT-4.55R
designator J?, comment T690300155300  (value not drawn)
FFC\FPC 15P P0.5 F\90 0.5S-4-15PT-4.55 K; MFG Part: 0.5S-4-16PT-4.55R; MFG: 金佳; CREATE_NAME: Nathan; Current: 0.5A; Value: 0.5mm; DIP&SMD: SMD; SAP: T690300155300; Vendor Name: *; Vendor Code: *; Type: Connector; CREATE_TIME: 13-Nov-2018
footprint CONN FFC 15P PH=0.5MM SMT ST 0.5S-4-15PT-4.55R (CHIP FFC CONNECTOR 15PIN 0.5P ST)
pins: 0, 1, 2, 3, 4, 5, 6, 7, 8, 9, 10, 11, 12, 13, 14, 15

## CONN FFC 15P PH=0.5MM SMT RA
designator J?, comment value 0.5mm  (hidden comment: T690300052900)
FFC CONN 15FCH-RSM1-GA-TB 15P JST H; CREATE_NAME: Tom; DIP&SMD: SMD; SAP: T690300052900; MFG: JST; MFG Part: 15FCH-RSM1-GA-TB; Vendor Name: *; Vendor Code: *; Type: Connector; CREATE_TIME: 15-Oct-2015; Current: *
footprint CONN FFC 15P PH=0.5MM SMT RA (FFC CONN 15FCH-RSM1-GA-TB 15P JST H)
pins: 0, 1, 2, 3, 4, 5, 6, 7, 8, 9, 10, 11, 12, 13, 14, 15

## CONN FFC 15P PH=0.5mm SMT SR RA
designator J?, comment value 0.5mm  Current: 0.5A  (hidden comment: CNC050010-0115)
FFC CONNECTOR 51PIN 0.5P 180' EVAFLEX 5; SAP: T690300020800; MFG: 金科基; CREATE_NAME: Nathan; CREATE_TIME: 22Aug-2014; DIP&SMD: SMD; Vendor Name: *; Vendor Code: *; MFG Part: *; Type: Connector
footprint CONN FFC 15P PH=0.5mm SMT SR RA (SMD FFC CONNECTOR 15P P=0.5mm 180'单排)
pins: 0, 1, 2, 3, 4, 5, 6, 7, 8, 9, 10, 11, 12, 13, 14, 15

## CONN FFC 16P 2X8 PH=0.5MM SMT ST 0.5S-4-16PT-4.55R
designator J?, comment T690300153800  (value not drawn)
FFC\FPC 16P P0.5 F\90 0.5S-4-16PT-4.55 K; MFG Part: 0.5S-4-16PT-4.55R; MFG: 金佳; CREATE_NAME: Nathan; Current: 0.5A; Value: 0.5mm; DIP&SMD: SMD; SAP: T690300153800; Vendor Name: *; Vendor Code: *; Type: Connector; CREATE_TIME: 11-OCT-2018
footprint CONN FFC 16P PH=0.5MM SMT ST 0.5S-4-16PT-4.55R (CHIP FFC CONNECTOR 16PIN 0.5P ST)
pins: 0, 1, 2, 3, 4, 5, 6, 7, 8, 9, 10, 11, 12, 13, 14, 15, 16

## CONN FFC 16P 2X8 PH=0.5MM SMT ST 1012A1-016
designator J?, comment value 0.5mm  (hidden comment: T690300155700)
FFC\FPC 16P P0.5 F\90 1012A1-016-1P1 K; MFG: 金科基; CREATE_NAME: Nathan; Current: 0.5A; DIP&SMD: SMD; SAP: T690300155700; MFG Part: 1012A1-016-1P1; Vendor Name: *; Vendor Code: *; Type: Connector; CREATE_TIME: 21-Nov-2018
footprint CONN FPC 16P 2X8 PH=0.5mm SMT ST 1012A1-016 (GP CHIP CONNECTOR 16P PH=0.5mm H5.45mm)
pins: 0, 1, 2, 3, 4, 5, 6, 7, 8, 9, 10, 11, 12, 13, 14, 15, 16

## CONN FFC 16P 2X8 PH=0.5MM SMT ST CF20161V0R0-NH
designator J?, comment T690300150200  (value not drawn)
SMD CONN. 16P PH:0.5MM 180 CF20161V0R0-NH L; MFG: CVILUX(瀚荃); CREATE_NAME: Nathan; Vendor Code: *; Vendor Name: *; TYPE: Connector; CREATE_TIME: 23-Aug-2018; SAP: T690300150200; MFG Part: CF20161V0R0-NH; DIP&SMD: SMD
footprint CONN FFC 16P 2X8 PH=0.5MM ST CF20161V0R0-NH (FFC CONNECTOR SMT 16P P=0.5mm ZIF 2*8PIN)
pins: 0, 1, 2, 3, 4, 5, 6, 7, 8, 9, 10, 11, 12, 13, 14, 15, 16

## CONN FFC 16P 2X8 PH=1.0mm SMT ST_1.0-7-16PB
designator J?, comment value 1.0mm  (hidden comment: T690300082100)
CHIP FFC CONNECTOR 16PIN P:1.0MM 90 W K; MFG Part: 1.0-7-16PB; MFG: 金科基; CREATE_NAME: Nathan; Voltage: 50V; Current: 0.5A; DIP&SMD: SMD; SAP: T690300082100; Vendor Code: *; Vendor Name: *; CREATE_TIME: 21-July-2016; Type: Connector
footprint CONN FFC 16P 2X8 PH=1.0mm SMT ST_1.0-7-16PB (CHIP CONNECTOR 16P P=1.0mm ST 单排镀镍)
pins: 1, 2, 3, 4, 5, 6, 7, 8, 9, 10, 11, 12, 13, 14, 15, 16

## CONN FFC 16P PH=0.5MM SMT RA CF2516FD0R0-05-NH
designator J?, comment T690300159100  (value not drawn)
FFC CONNECTOR SIDE ENTRY 0.5MM 16P GOL L; MFG Part: CF2516FD0R0-05-NH; MFG: CVILUX; CREATE_NAME: Nathan; DIP&SMD: SMD; Vendor Code: *; Vendor Name: *; TYPE: Connector; CREATE_TIME: 27-Dec-2018; SAP: T690300159100
footprint CONN FPC 16P PH=0.5mm SMT RA CF2516FD0R0-05-NH (GP CHIP CONNECTOR 16P PH=0.5mm H2.2mm)
pins: 0, 1, 2, 3, 4, 5, 6, 7, 8, 9, 10, 11, 12, 13, 14, 15, 16

## CONN FFC 18P 2X9 PH=0.5MM SMT ST 1012A1-018
designator J?, comment value 0.5mm  (hidden comment: CNC050010-0518)
CHIP CONNECTOR 18PIN P=0.5mm 90'; MFG Part: 1012A1-018-1P1; SAP: T690300035300; MFG: 金科基; CREATE_NAME: Nathan; Current: 0.5A; DIP&SMD: SMD; Vendor Name: *; Vendor Code: *; Type: Connector; CREATE_TIME: 06-Mar-2015
footprint CONN FPC 18P 2X9 PH=0.5mm SMT ST 1012A1-018 (GP CHIP CONNECTOR 18P PH=0.5mm H5.45mm)
pins: 0, 1, 2, 3, 4, 5, 6, 7, 8, 9, 10, 11, 12, 13, 14, 15, 16, 17, 18

## CONN FFC 20P 2X10 PH=0.5MM SMT ST 1012A1-020
designator J?, comment CHC050010-0620  (value not drawn)
CHIP HOUSING 20P  P=0.5mm 90'  双排镀镍1012A1-020-1P1; MFG: 金科基; CREATE_NAME: Nathan; SAP: T690300027900; DIP&SMD: SMD; Vendor Code: *; Vendor Name: *; TYPE: Connector; CREATE_TIME: 07-Feb-2015; MFG Part: 1012A1-020-1P1
footprint CONN FPC 20P-A 2X10 PH=0.5mm ST 1012A1-020 (GP CHIP CONNECTOR 20P PH=0.5mm H5.45mm)
pins: 0, 1, 2, 3, 4, 5, 6, 7, 8, 9, 10, 11, 12, 13, 14, 15, 16, 17, 18, 19, 20

## CONN FFC 20P 2X10 PH=0.5MM SMT ST MOLEX
designator J?, comment value 0.5mm  (hidden comment: T690300112800)
CONNECTOR 20P 0.5MM 52559-2052 G; MFG: MOLEX; CREATE_NAME: Nathan; DIP&SMD: SMD; SAP: T690300112800; MFG Part: 52559-2052; Vendor Name: *; Vendor Code: *; Type: Connector; CREATE_TIME: 14-July-2017; Current: *
footprint CONN FFC 20P 2X10 PH=0.5MM SMT ST MOLEX (CONN FFC 20P 2X10 PH=0.5MM SMT ST MOLEX 525592052)
pins: 0, 1, 2, 3, 4, 5, 6, 7, 8, 9, 10, 11, 12, 13, 14, 15, 16, 17, 18, 19, 20

## CONN FFC 20P PH=0.5MM SMT RA CF2520FD0R0-05-NH
designator J?, comment T690300156100  (value not drawn)
FFC CONNECTOR SIDE ENTRY 0.5MM 20P GOL L; MFG Part: CF2520FD0R0-05-NH; MFG: CVILUX; CREATE_NAME: Nathan; DIP&SMD: SMD; Vendor Code: *; Vendor Name: *; TYPE: Connector; CREATE_TIME: 29-Nov-2018; SAP: T690300156100
footprint CONN FPC 20P PH=0.5mm SMT RA CF2520FD0R0-05-NH (GP CHIP CONNECTOR 20P PH=0.5mm H2.2mm)
pins: 0, 1, 2, 3, 4, 5, 6, 7, 8, 9, 10, 11, 12, 13, 14, 15, 16, 17, 18, 19, 20

## CONN FFC 22P 2X11 PH=0.5MM SMT ST 0.5S-4-22PTFAR
designator J?, comment T690300162900  (value not drawn)
FFC CONNECTOR 22P 0.5MM GOLD PLATED L; MFG Part: 0.5S-4-22PTFAR; MFG: 金佳; CREATE_NAME: Nathan; Current: 0.5A; DIP&SMD: SMD; SAP: T690300162900; Vendor Name: *; Vendor Code: *; Type: Connector; CREATE_TIME: 19-Mar-2019; Value: 0.5mm
footprint CONN FFC 22P PH=0.5MM SMT ST 0.5S-4-22PTFAR (CHIP FFC CONNECTOR 22PIN 0.5P ST)
pins: 0, 1, 2, 3, 4, 5, 6, 7, 8, 9, 10, 11, 12, 13, 14, 15, 16, 17, 18, 19, 20, 21, 22

## CONN FFC 22P 2X11 PH=0.5MM SMT ST 1012A0-022
designator J?, comment T690300121500  (value not drawn)
FFC\FPC 22PIN P0.5 1012A0-022-1P1 K; MFG: 金瑞康; CREATE_NAME: Nathan; DIP&SMD: SMD; Vendor Code: *; Vendor Name: *; TYPE: Connector; CREATE_TIME: 28-Sep-2017; SAP: T690300121500; MFG Part: 1012A0-022-1P1
footprint CONN FPC 22P 2X11 PH=0.5mm SMT ST 1012A0-022 (GP CHIP CONNECTOR 22P PH=0.5mm H4.63mm)
pins: 0, 1, 2, 3, 4, 5, 6, 7, 8, 9, 10, 11, 12, 13, 14, 15, 16, 17, 18, 19, 20, 21, 22

## CONN FFC 22P 2X11 PH=0.5MM SMT ST TF38-22S-0.5SV(830)
designator J?, comment T690300131700  (value not drawn)
FFC\FPC 22PIN P0.5 TF38-22S-0.5SV(830) L; MFG: HIROSE; CREATE_NAME: Nathan; DIP&SMD: SMD; Vendor Code: *; Vendor Name: *; TYPE: Connector; CREATE_TIME: 02-Feb-2018; SAP: T690300131700; MFG Part: TF38-22S-0.5SV(830)
footprint CONN FPC 22P 2X11 PH=0.5mm ST TF38-22S-0.5SV(830) (Connector FPC 22P Pitch 0.5mm)
pins: 0, 1, 2, 3, 4, 5, 6, 7, 8, 9, 10, 11, 12, 13, 14, 15, 16, 17, 18, 19, 20, 21, 22

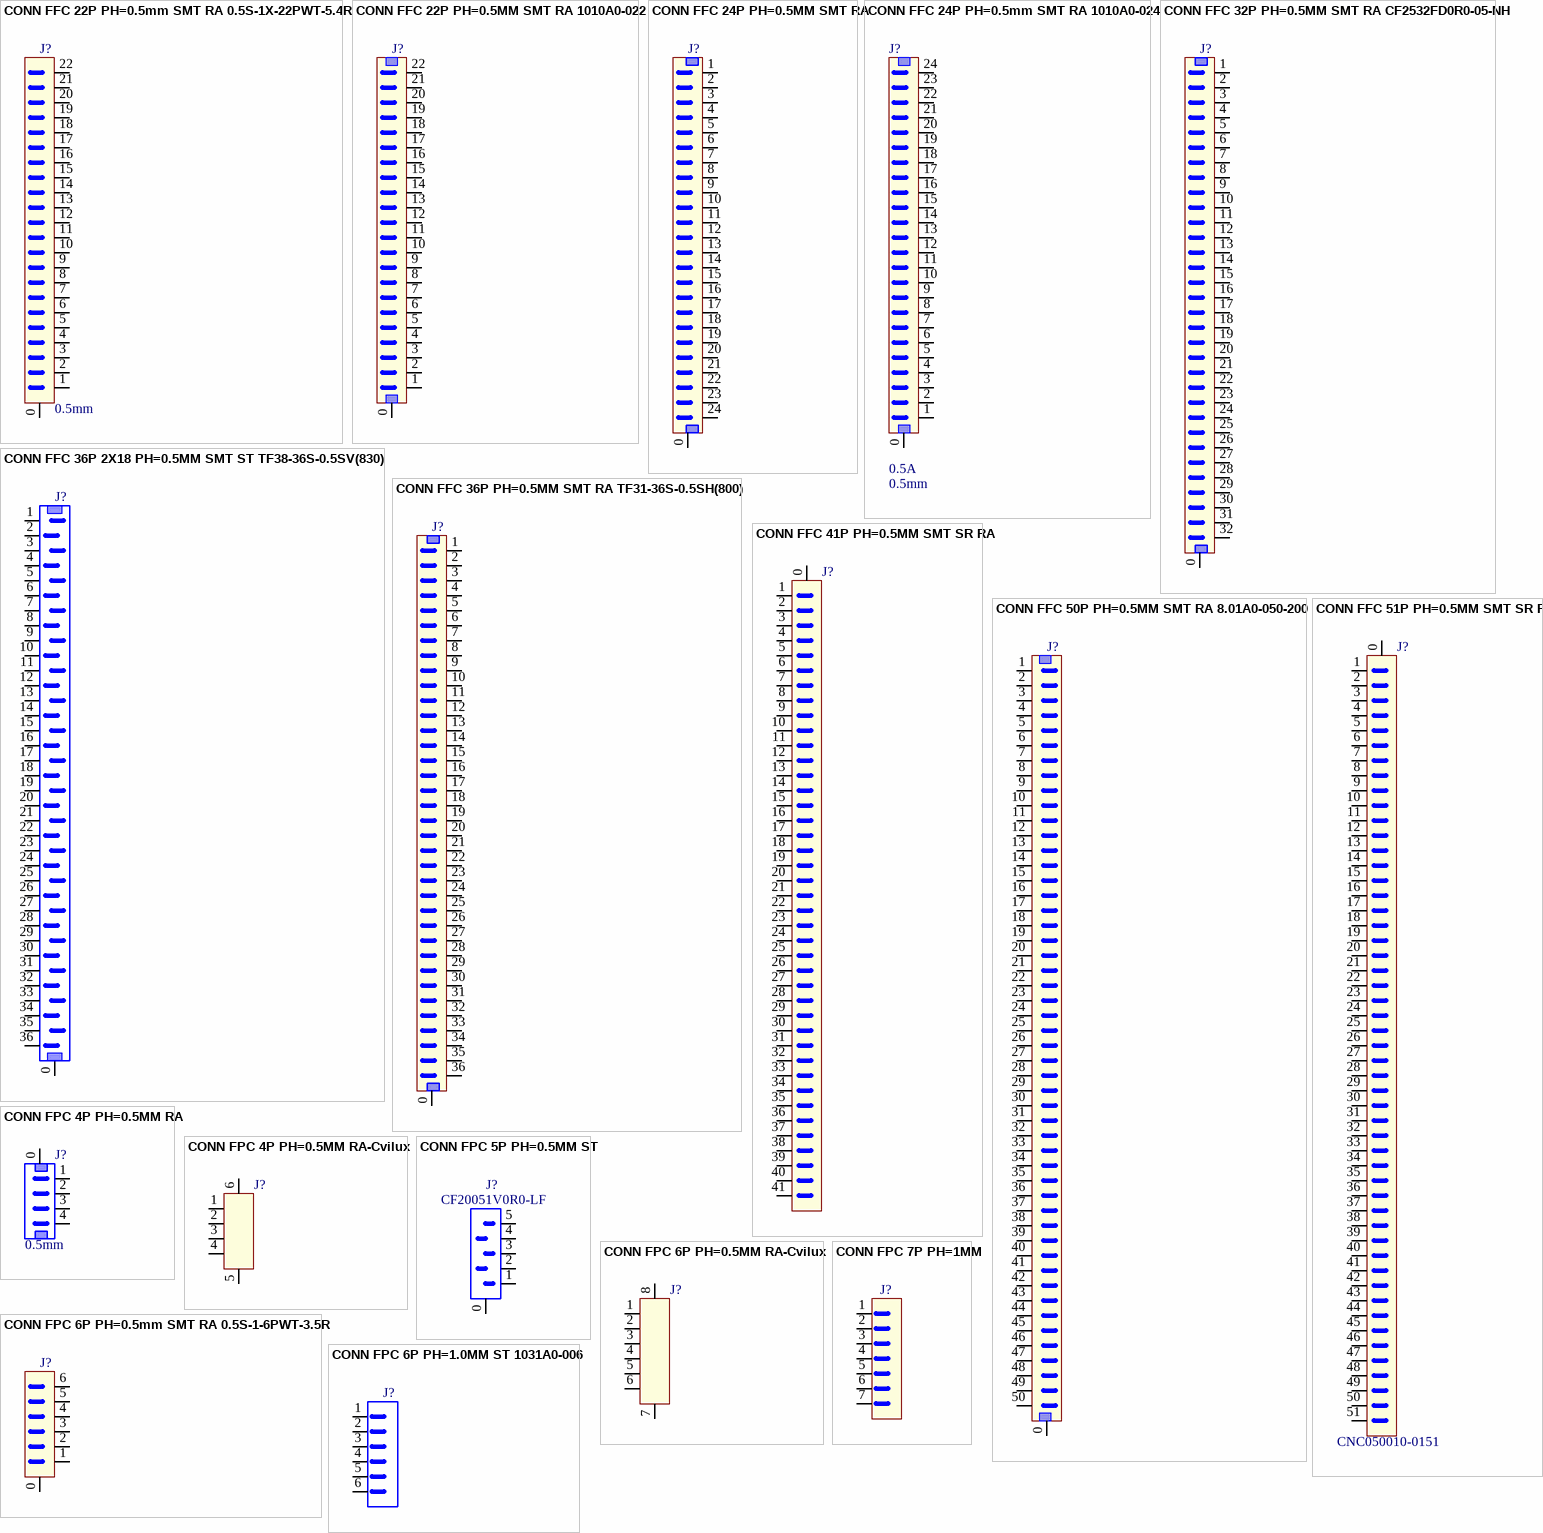
[diagram p7: symbols CONN FFC 22P PH=0.5mm SMT RA 0.5S-1X-22PWT-5.4R to CONN FPC 7P PH=1MM]

## CONN FFC 22P PH=0.5mm SMT RA 0.5S-1X-22PWT-5.4R
designator J?, comment value 0.5mm  (hidden comment: T690300139200)
22P P=0.5MM 180 K; MFG Part: 0.5S-1X-22PWT-5.4R; MFG: 金佳; CREATE_NAME: Nathan; DIP&SMD: SMD; Vendor Code: *; Vendor Name: *; TYPE: Connector; CREATE_TIME: 26-Apr-2018; SAP: T690300139200; Current: *
footprint CONN FFC 22P PH=0.5mm SMT RA 0.5S-1X-22PWT-5.4R (SMD FFC CONNECTOR 22P P=0.5mm RA SR)
pins: 0, 1, 2, 3, 4, 5, 6, 7, 8, 9, 10, 11, 12, 13, 14, 15, 16, 17, 18, 19, 20, 21, 22

## CONN FFC 22P PH=0.5MM SMT RA 1010A0-022
designator J?, comment T690300074700  (value not drawn)
22P 0.5MM 180 1010A0-022-1P1 G; MFG: 金科基; CREATE_NAME: Tom; Current: 0.5A; DIP&SMD: SMD; Vendor Code: *; Vendor Name: *; TYPE: Connector; CREATE_TIME: 01-Mar-2016; SAP: T690300074700; MFG Part: 1010A0-022; Value: 0.5mm
footprint CONN FFC 22P PH=0.5mm SMT RA 1010A0-022 (*)
pins: 0, 1, 2, 3, 4, 5, 6, 7, 8, 9, 10, 11, 12, 13, 14, 15, 16, 17, 18, 19, 20, 21, 22

## CONN FFC 24P PH=0.5MM SMT RA
designator J?, comment T690300075800  (value not drawn)
24P 0.5MM 180 FFC CONNECTOR 1007A0-024 G; MFG Part: 1007A0-024-1P1; MFG: RICHER\金瑞康; CREATE_NAME: Tom; DIP&SMD: SMD; Vendor Code: *; Vendor Name: *; TYPE: Connector; CREATE_TIME: 11-May-2015; SAP: T690300075800; Value: 0.5mm; Current: *; Customer Specific: N/A
footprint CONN FPC 24P PH=0.5MM SMT RA (SMT CONNECTOR 24Pin P=0.5mm 180')
pins: 0, 1, 2, 3, 4, 5, 6, 7, 8, 9, 10, 11, 12, 13, 14, 15, 16, 17, 18, 19, 20, 21, 22, 23, 24

## CONN FFC 24P PH=0.5mm SMT RA 1010A0-024
designator J?, comment value 0.5mm  Current: 0.5A  (hidden comment: T690300059800)
24P 0.5MM 180 FFC CONNECTOR 1010A0-024 G; MFG Part: 1010A0-024-1P1; MFG: RICHER INDUSTRIAL; CREATE_NAME: Tom; DIP&SMD: SMD; SAP: T690300059800; Vendor Name: *; Vendor Code: *; CREATE_TIME: 03-Mar-2016; Type: Connector
footprint CONN FFC 24P PH=0.5mm SMT RA 1010A0-024 (SMD FFC CONNECTOR 24P P=0.5mm 180'单排)
pins: 0, 1, 2, 3, 4, 5, 6, 7, 8, 9, 10, 11, 12, 13, 14, 15, 16, 17, 18, 19, 20, 21, 22, 23, 24

## CONN FFC 32P PH=0.5MM SMT RA CF2532FD0R0-05-NH
designator J?, comment T690300156000  (value not drawn)
FFC CONNECTOR SIDE ENTRY 0.5MM 32P GOL L; MFG Part: CF2532FD0R0-05-NH; MFG: CVILUX; CREATE_NAME: Nathan; DIP&SMD: SMD; Vendor Code: *; Vendor Name: *; TYPE: Connector; CREATE_TIME: 29-Nov-2018; SAP: T690300156000
footprint CONN FPC 32P PH=0.5mm SMT RA CF2532FD0R0-05-NH (GP CHIP CONNECTOR 32P PH=0.5mm H2.2mm)
pins: 0, 1, 2, 3, 4, 5, 6, 7, 8, 9, 10, 11, 12, 13, 14, 15, 16, 17, 18, 19, 20, 21, 22, 23, 24, 25, 26, 27, 28, 29, 30, 31, 32

## CONN FFC 36P 2X18 PH=0.5MM SMT ST TF38-36S-0.5SV(830)
designator J?, comment T690300115800  (value not drawn)
FFC\FPC 36PIN P0.5 TF38-36S-0.5SV(830) K; MFG: HIROSE; CREATE_NAME: Nathan; DIP&SMD: SMD; Vendor Code: *; Vendor Name: *; TYPE: Connector; CREATE_TIME: 22-Aug-2017; SAP: T690300115800; MFG Part: TF38-36S-0.5SV(830)
footprint CONN FPC 36P 2X18 PH=0.5mm ST TF38-36S-0.5SV(830) (Connector FPC 36P Pitch 0.5mm)
pins: 0, 1, 2, 3, 4, 5, 6, 7, 8, 9, 10, 11, 12, 13, 14, 15, 16, 17, 18, 19, 20, 21, 22, 23, 24, 25, 26, 27, 28, 29, 30, 31, 32, 33, 34, 35, 36

## CONN FFC 36P PH=0.5MM SMT RA TF31-36S-0.5SH(800)
designator J?, comment T690300115700  (value not drawn)
FFC\FPC 36PIN P0.5 TF31-36S-0.5SH(800) K; MFG: HIROSE; CREATE_NAME: Nathan; DIP&SMD: SMD; Vendor Code: *; Vendor Name: *; TYPE: Connector; CREATE_TIME: 22-Aug-2017; SAP: T690300115700; MFG Part: TF31-36S-0.5SH(800)
footprint CONN FPC 36P PH=0.5MM SMT RA TF31-36S-0.5SH(800)
pins: 0, 1, 2, 3, 4, 5, 6, 7, 8, 9, 10, 11, 12, 13, 14, 15, 16, 17, 18, 19, 20, 21, 22, 23, 24, 25, 26, 27, 28, 29, 30, 31, 32, 33, 34, 35, 36

## CONN FFC 41P PH=0.5MM SMT SR RA
designator J?, comment T690300048700  (value not drawn)
CHIP FFC CONNECTOR 41PIN 0.5P 180' EVAFLEX5; CREATE_NAME: Nathan; MFG: I-PEX; DIP&SMD: SMD; CREATE_TIME: 30-June-2015; MFG Part: EVAFLEX5; SAP: T690300048700; TYPE: Connector; Value: *; Vendor Code: *; Vendor Name: *
footprint CONN FFC 41P PH=0.5MM SMT SR RA (CHIP FFC CONNECTOR 41PIN 0.5P 180' EVAFLEX5)
pins: 0, 1, 2, 3, 4, 5, 6, 7, 8, 9, 10, 11, 12, 13, 14, 15, 16, 17, 18, 19, 20, 21, 22, 23, 24, 25, 26, 27, 28, 29, 30, 31, 32, 33, 34, 35, 36, 37, 38, 39, 40, 41

## CONN FFC 50P PH=0.5MM SMT RA 8.01A0-050-200
designator J?, comment T690300120100  (value not drawn)
FFC\FPC 50PIN P0.5 8.01A0-050-200 K; MFG: 金瑞康; CREATE_NAME: Nathan; DIP&SMD: SMD; Vendor Code: *; Vendor Name: *; TYPE: Connector; CREATE_TIME: 25-Sep-2017; SAP: T690300120100; MFG Part: 8.01A0-050-200
footprint CONN FPC 50P PH=0.5mm SMT RA 8.01A0-050-200 (GP CHIP CONNECTOR 50P  P=0.5xH2.0mm PH=0.5mm H2.0mm)
pins: 0, 1, 2, 3, 4, 5, 6, 7, 8, 9, 10, 11, 12, 13, 14, 15, 16, 17, 18, 19, 20, 21, 22, 23, 24, 25, 26, 27, 28, 29, 30, 31, 32, 33, 34, 35, 36, 37, 38, 39, 40, 41, 42, 43, 44, 45, 46, 47, 48, 49, 50

## CONN FFC 51P PH=0.5MM SMT SR RA
designator J?, comment CNC050010-0151
CHIP FFC CONNECTOR 51PIN 0.5P 180' EVAFLEX5; CREATE_NAME: TOM@Deftronics; MFG: I-PEX; SAP: T690300025500; DIP&SMD: SMD; CREATE_TIME: 11-Aug-2014; MFG Part: EVAFLEX5; TYPE: Connector; Value: *; Vendor Code: *; Vendor Name: *
footprint CONN FFC 51P PH=0.5MM SMT SR RA (CHIP FFC CONNECTOR 51PIN 0.5P 180' EVAFLEX5)
pins: 0, 1, 2, 3, 4, 5, 6, 7, 8, 9, 10, 11, 12, 13, 14, 15, 16, 17, 18, 19, 20, 21, 22, 23, 24, 25, 26, 27, 28, 29, 30, 31, 32, 33, 34, 35, 36, 37, 38, 39, 40, 41, 42, 43, 44, 45, 46, 47, 48, 49, 50, 51

## CONN FPC 4P PH=0.5MM RA
designator J?, comment value 0.5mm  (hidden comment: T690300051700)
FPC拉拔式下接4P; MFG: 金科基; CREATE_NAME: Tom; DIP&SMD: SMD; SAP: T690300051700; Vendor Name: *; Vendor Code: *; CREATE_TIME: 09-Sep-2015; MFG Part: *; Type: Connector; Current: *
footprint CONN FPC 4P PH=0.5MM SMT (SMT CONNECTOR 4Pin P=0.5mm 180')
pins: 0, 1, 2, 3, 4

## CONN FPC 4P PH=0.5MM RA-Cvilux
designator J?, comment T690300062000  (value not drawn)
FPC\CF2004_.5MM_VL CF20041U0R0-NH H; MFG: 瀚荃; Value: 0.5mm; CREATE_NAME: Tom; DIP&SMD: SMD; SAP: T690300062000; Vendor Name: *; Vendor Code: *; MFG Part: CF20041U0R0-NH; Tolerance: *; Type: Connector; CREATE_TIME: 26-Feb-2016
footprint CONN FPC 4P PH=0.5MM RA-CVILUX
pins: 1, 2, 3, 4, 5, 6

## CONN FPC 5P PH=0.5MM ST
designator J?, comment MFG Part: CF20051V0R0-LF  (hidden comment: CNC050010-0105)
CHIP CONNECTOR FPC 5PIN 0.5P   180'单排; SAP: T690300024800; MFG: 瀚荃股份有限公司; CREATE_NAME: Nathan; Value: 0.5mm; DIP&SMD: SMD; Vendor Name: *; Vendor Code: *; Type: Connector; CREATE_TIME: 30-SEP-2014; Current: *
footprint CONN FPC 5P PH=0.5mm ST (Connector FPC 5P Pitch 0.5mm)
pins: 0, 1, 2, 3, 4, 5

## CONN FPC 6P PH=0.5MM RA-Cvilux
designator J?, comment T690300061800  (value not drawn)
FPC\CF2006_.5MM_VL CF20061U0R0-NH H; MFG: 瀚荃; Value: 0.5mm; CREATE_NAME: Tom; DIP&SMD: SMD; SAP: T690300061800; Vendor Name: *; Vendor Code: *; MFG Part: CF20061U0R0-NH; Tolerance: *; Type: Connector; CREATE_TIME: 26-Feb-2016
footprint CONN FPC 6P PH=0.5MM RA-CVILUX
pins: 1, 2, 3, 4, 5, 6, 7, 8

## CONN FPC 6P PH=0.5mm SMT RA 0.5S-1-6PWT-3.5R
designator J?, comment T690300132500  (value not drawn)
FFC\FPC 6PIN P0.5 F\90 0.5S-1-6PWT-3.5 K; MFG Part: 0.5S-1-6PWT-3.5R; MFG: 金佳; CREATE_NAME: Nathan; DIP&SMD: SMD; Value: 0.5mm; Vendor Code: *; Vendor Name: *; TYPE: Connector; CREATE_TIME: 07-Feb-2018; SAP: T690300132500; Current: *
footprint CONN FPC 6P PH=0.5mm SMT RA 0.5S-1-6PWT-3.5R (SMD FPC 6P PH=0.5mm  1.0H 1.75mm(Open H))
pins: 0, 1, 2, 3, 4, 5, 6

## CONN FPC 6P PH=1.0MM ST 1031A0-006
designator J?, comment T690300113400  (value not drawn)
SMD CONNECTOR LOCK 6PIN P:1.0MM G; MFG Part: 1031A0-006-1P1; Value: 1.0mm; MFG: 金瑞康; CREATE_NAME: Nathan; SAP: T690300113400; Vendor Name: *; Vendor Code: *; Type: Connector; CREATE_TIME: 28-July-2017; Current: *; DIP&SMD: SMD
footprint CONN FPC 6P PH=1.0mm ST 1031A0-006 (CHIP CONNECTOR FFC 6P P=1.0mm 180')
pins: 1, 2, 3, 4, 5, 6

## CONN FPC 7P PH=1MM
designator J?, comment CNC100010-0507  (value not drawn)
CHIP FPC CONNECTOR 7P P=1.0mm; SAP: T690300021100; MFG: 金科基; CREATE_NAME: Tom; DIP&SMD: SMD; Vendor Code: *; Vendor Name: *; Type: CONNETOR; CREATE_TIME: 29-Apr-2015; MFG Part: *
footprint CONN FPC 7P PH=1MM (CHIP FPC CONNECTOR 7P P=1.0mm)
pins: 1, 2, 3, 4, 5, 6, 7

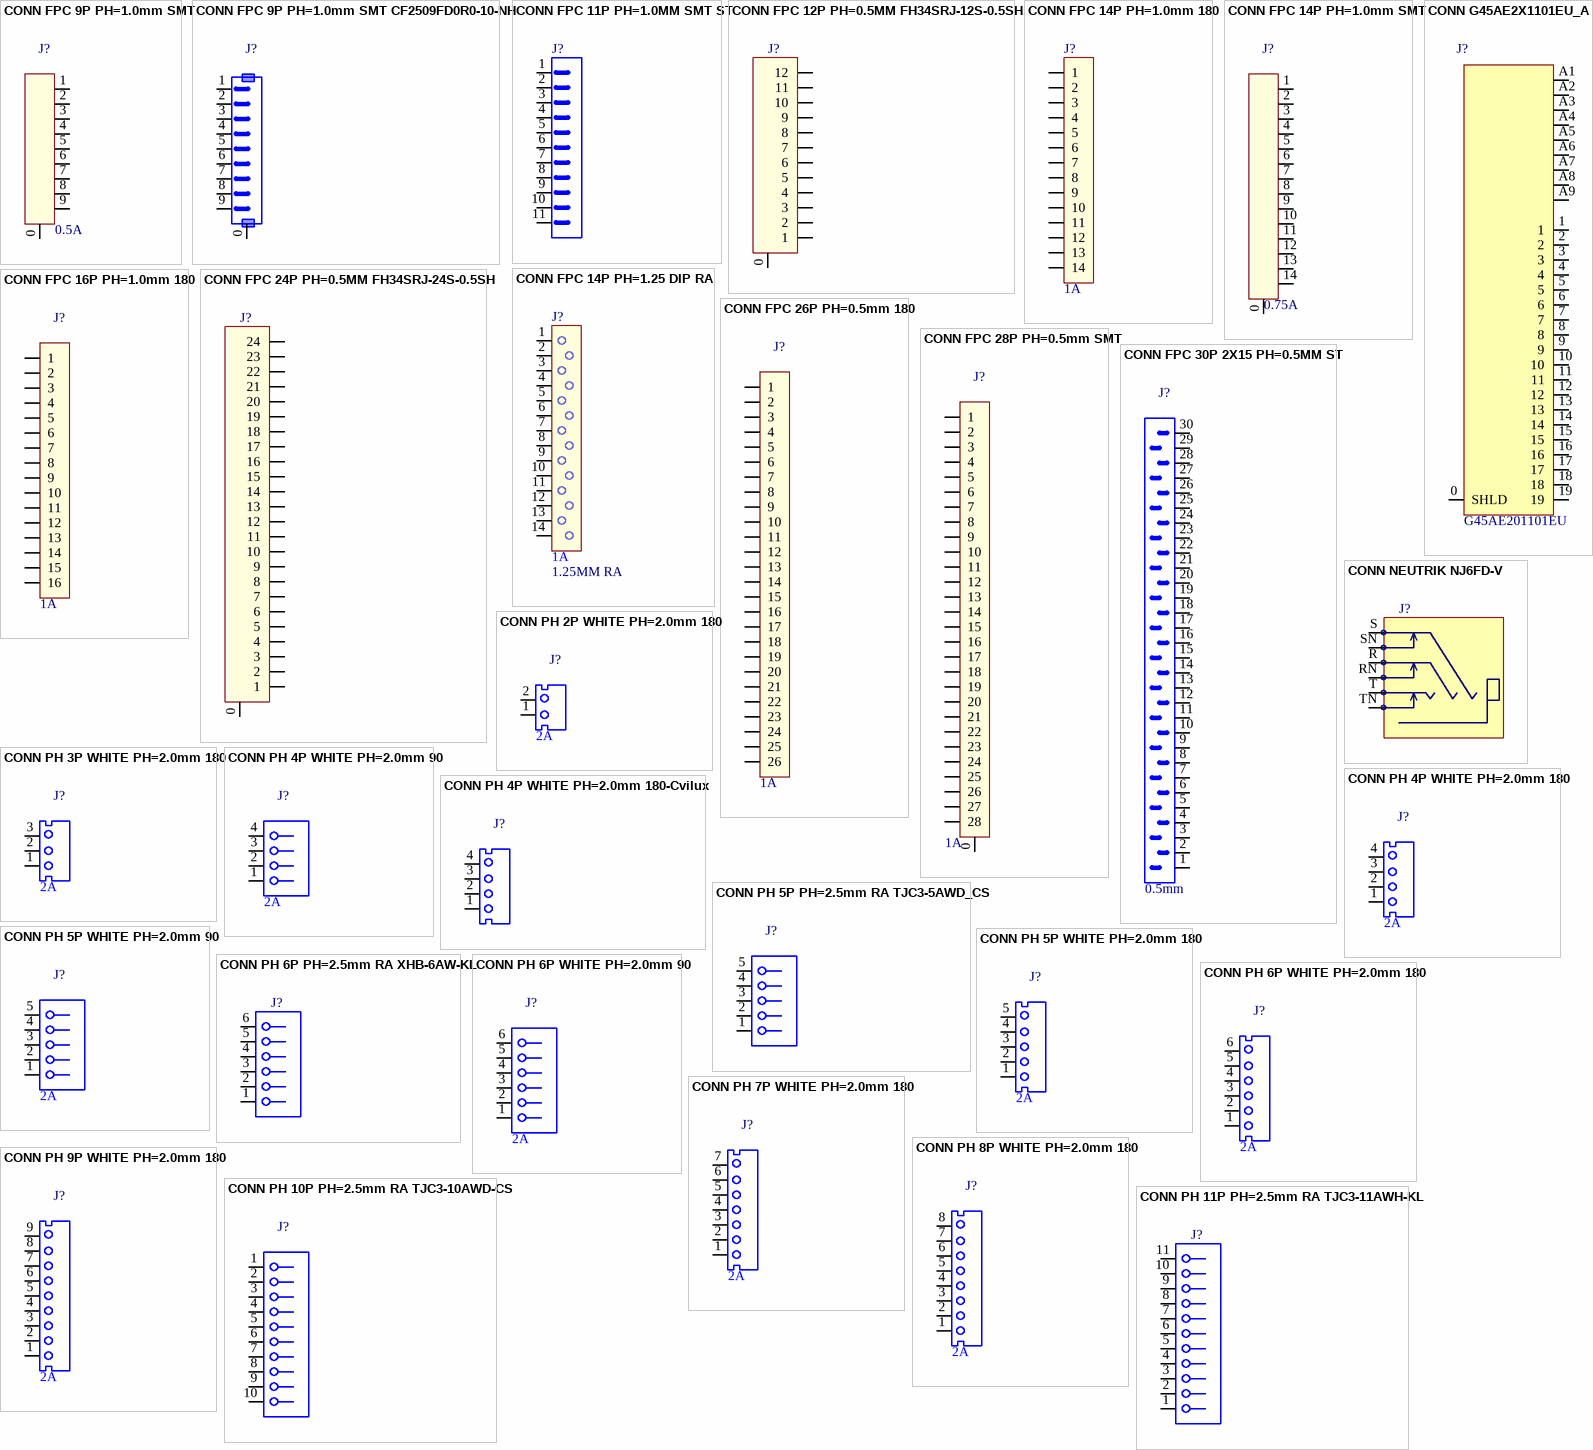
[diagram p8: symbols CONN FPC 9P PH=1.0mm SMT to CONN PH 11P PH=2.5mm RA TJC3-11AWH-KL]

## CONN FPC 9P PH=1.0mm SMT
designator J?, comment Current: 0.5A  (hidden comment: CNC100010-0109)
CHIP CONNECTOR 9PIN P=1.0mm 180; SAP: T690300015300; MFG: 利民丰; Value: 1.0mm; CREATE_NAME: GordonL@Deftronics; DIP&SMD: SMD; MFG Part: *; Vendor Name: *; Vendor Code: *; CREATE_TIME: 24-Jul-2013; Type: Connector
footprint CONN FPC 9P PH=1.0mm SMT (GP CHIP CONNECTOR 9P  P=1.0xH2.0mm PH=1.0mm H2.5mm)
pins: 0, 1, 2, 3, 4, 5, 6, 7, 8, 9

## CONN FPC 9P PH=1.0mm SMT CF2509FD0R0-10-NH
designator J?, comment T690300101700  (value not drawn)
FPC CONNECTOR 9P 1.0MM SMT ONE TOUCH H; MFG Part: CF2509FD0R0-10-NH; MFG: CVILUX(瀚荃); CREATE_NAME: Nathan; DIP&SMD: SMD; SAP: T690300101700; Vendor Name: *; Vendor Code: *; Value: 1.0mm; CREATE_TIME: 13-Mar-2017; Type: Connector; Current: *
footprint CONN FPC 9P PH=1.0mm SMT CF2509FD0R0-10-NH (GP CHIP CONNECTOR 9P PH=1.0mm H2.2mm)
pins: 0, 1, 2, 3, 4, 5, 6, 7, 8, 9

## CONN FPC 11P PH=1.0MM SMT ST
designator J?, comment T690300049100  (value not drawn)
CHIP FPC CONNECTOR 11P P=1.0MM 1.0T-16 G; MFG Part: 1.0T-16-11PB-2; Value: 1.0mm; MFG: 金科基; CREATE_NAME: Tom; DIP&SMD: SMD; SAP: T690300049100; Vendor Name: *; Vendor Code: *; Type: Connector; CREATE_TIME: 17-Jun-2015; Current: *
footprint CONN FPC 11P PH=1.0MM SMT ST
pins: 1, 2, 3, 4, 5, 6, 7, 8, 9, 10, 11

## CONN FPC 12P PH=0.5MM FH34SRJ-12S-0.5SH
designator J?, comment T690300107200  (value not drawn)
FFC\FPC CONN 12PIN FH34SRJ-12S-0.5SH L; MFG: HIROSE; CREATE_NAME: Nathan; Value: 0.5mm; Current: 0.5A; DIP&SMD: SMD; Vendor Code: *; Vendor Name: *; TYPE: Connector; CREATE_TIME: 20-Mar-2017; SAP: T690300107200; MFG Part: FH34SRJ-12S-0.5SH
footprint CONN FPC 12P PH=0.5MM FH34SRJ-12S-0.5SH (CONN FPC 12P PH=0.5MM)
pins: 0, 1, 2, 3, 4, 5, 6, 7, 8, 9, 10, 11, 12

## CONN FPC 14P PH=1.0mm 180
designator J?, comment Current: 1A  (hidden comment: T690300054400)
SMD CONNECTOR LOCK 14PIN P=1.0MM 90°; MFG: 金基科; CREATE_NAME: Tom; Value: 1.0mm; SAP: T690300054400; MFG Part: *; Vendor Name: *; Vendor Code: *; Type: Connector; CREATE_TIME: 02-Nov-2015; DIP&SMD: SMD
footprint CONN FPC 14P PH=1.0mm 180 (GP CHIP CONNECTOR 14P  PH=1.0mm H5.4mm)
pins: 1, 2, 3, 4, 5, 6, 7, 8, 9, 10, 11, 12, 13, 14

## CONN FPC 14P PH=1.0mm SMT
designator J?, comment Current: 0.75A  (hidden comment: CNC100010-0114)
GP CHIP CONNECTOR 14P  P=1.0xH2.0mm; SAP: T690300015900; Vendor Name: 亿源电子有限公司; Vendor Code: 10009989; Value: 1.0mm; DIP&SMD: SMD; Value: *; MFG: *; MFG Part: *; Type: Connector
footprint CONN FPC 14P PH=1.0mm SMT (GP CHIP CONNECTOR 14P  P=1.0xH2.0mm PH=1.0mm H2.5mm)
pins: 0, 1, 2, 3, 4, 5, 6, 7, 8, 9, 10, 11, 12, 13, 14

## CONN FPC 14P PH=1.25 DIP RA
designator J?, comment value 1.25MM RA  Current: 1A  (hidden comment: T690300050100)
14PIN FPC CONNECTOR DIP G; MFG: 金科基; CREATE_NAME: Tom; SAP: T690300050100; MFG Part: *; Vendor Name: *; Vendor Code: *; Type: Connector; CREATE_TIME: 22-Jul-2015; DIP&SMD: DIP
footprint CONN FPC 14P PH=1.25 DIP RA (T690300050000  14PIN FPC CONNECTOR DIP G)
pins: 1, 2, 3, 4, 5, 6, 7, 8, 9, 10, 11, 12, 13, 14

## CONN FPC 16P PH=1.0mm 180
designator J?, comment Current: 1A  (hidden comment: CNC100010-0116)
CHIP CONNECTOR 16PIN P=1.0mm 180'单排镀镍; SAP: T690300016000; MFG: 金基科; CREATE_NAME: Michael@Deftronics; Value: 1.0mm; DIP&SMD: SMD; MFG Part: *; Vendor Name: *; Vendor Code: *; Type: Connector; CREATE_TIME: 16-JAN-2013
footprint CONN FPC 16P PH=1.0mm 180 (GP CHIP CONNECTOR 16P  PH=1.0mm H5.4mm)
pins: 1, 2, 3, 4, 5, 6, 7, 8, 9, 10, 11, 12, 13, 14, 15, 16

## CONN FPC 24P PH=0.5MM FH34SRJ-24S-0.5SH
designator J?, comment T690300107300  (value not drawn)
FFC\FPC CONN 24PIN FH34SRJ-24S-0.5SH L; MFG: HIROSE; CREATE_NAME: Nathan; Value: 0.5mm; Current: 0.5A; DIP&SMD: SMD; Vendor Code: *; Vendor Name: *; TYPE: Connector; CREATE_TIME: 20-Mar-2017; SAP: T690300107300; MFG Part: FH34SRJ-24S-0.5SH
footprint CONN FPC 24P PH=0.5MM FH34SRJ-24S-0.5SH (CONN FPC 24P PH=0.5MM)
pins: 0, 1, 2, 3, 4, 5, 6, 7, 8, 9, 10, 11, 12, 13, 14, 15, 16, 17, 18, 19, 20, 21, 22, 23, 24

## CONN FPC 26P PH=0.5mm 180
designator J?, comment Current: 1A  (hidden comment: CNC050010-0526)
CHIP CONNECTOR 26PIN P=0.5mm 90'单排镀镍; SAP: T690300035400; MFG: 金基科; CREATE_NAME: GordonL@Deftronics; Value: 0.5mm; DIP&SMD: SMD; MFG Part: *; Vendor Name: *; Vendor Code: *; Type: Connector; CREATE_TIME: 20-FEB-2013
footprint CONN FPC 26P PH=0.5mm 180 (GP CHIP CONNECTOR 26P PH=0.5mm H4.65mm)
pins: 1, 2, 3, 4, 5, 6, 7, 8, 9, 10, 11, 12, 13, 14, 15, 16, 17, 18, 19, 20, 21, 22, 23, 24, 25, 26

## CONN FPC 28P PH=0.5mm SMT
designator J?, comment Current: 1A  (hidden comment: CNC050010-0128)
CHIP CONNECTOR 28PIN P=0.5mm 180'单排镀镍; SAP: T690300039200; MFG: 金基科; CREATE_NAME: GordonL@Deftronics; Value: 0.5mm; DIP&SMD: SMD; MFG Part: *; Vendor Name: *; Vendor Code: *; Type: Connector; CREATE_TIME: 21-FEB-2013
footprint CONN FPC 28P PH=0.5mm SMT (GP CHIP CONNECTOR 28P  P=0.5xH2.0mm PH=0.5mm H2.0mm)
pins: 0, 1, 2, 3, 4, 5, 6, 7, 8, 9, 10, 11, 12, 13, 14, 15, 16, 17, 18, 19, 20, 21, 22, 23, 24, 25, 26, 27, 28

## CONN FPC 30P 2X15 PH=0.5MM ST
designator J?, comment value 0.5mm  (hidden comment: CNC050011-0530)
FPC CONNECTOR 30PIN 0.5P 90' NICKEL  立式 全包; MFG Part: 1012A1-030-1P1; SAP: T690300044000; MFG: 金科基; CREATE_NAME: Nathan; Current: 0.5A; DIP&SMD: SMD; Vendor Name: *; Vendor Code: *; Type: Connector; CREATE_TIME: 26-AUG-2014
footprint CONN FPC 30P-A 2X15 PH=0.5mm ST (GP CHIP CONNECTOR 30P PH=0.5mm H5.45mm)
footprint CONN FPC 30P-B 2X15 PH=0.5mm ST (GP CHIP CONNECTOR 30P PH=0.5mm H5.45mm)
pins: 1, 2, 3, 4, 5, 6, 7, 8, 9, 10, 11, 12, 13, 14, 15, 16, 17, 18, 19, 20, 21, 22, 23, 24, 25, 26, 27, 28, 29, 30

## CONN G45AE2X1101EU_A
designator J?, comment MFG Part: G45AE201101EU  (hidden comment: T690300165600)
CON USB 3.0+HDMI G45AE201101EU AMPHEN K; MFG: AMPHENOL; CREATE_NAME: Tom; DIP&SMD: DIP; SAP: T690300165600; Vendor Code: *; Vendor Name: *; Type: Connector; CREATE_TIME: 17-Apr-2019
footprint CONN G45AE2X1101EU_A
pins: 0 SHLD, 1, 2, 3, 4, 5, 6, 7, 8, 9, 10, 11, 12, 13, 14, 15, 16, 17, 18, 19, A1, A2, A3, A4, A5, A6, A7, A8, A9

## CONN NEUTRIK NJ6FD-V
designator J?, comment T710200019500  (value not drawn)
6.35MM STEREO JACK NJ6FD-V K; MFG: NEUTRIK; CREATE_NAME: Nathan; DIP&SMD: DIP; SAP: T710200019500; Vendor Name: *; Vendor Code: *; Type: Connector; MFG Part: NJ6FD-V; CREATE_TIME: 16-Oct-2018; Customer Specific: N/A
footprint CONN NEUTRIK NJ6FD-V
pins: R, RN, S, SN, T, TN

## CONN PH 2P WHITE PH=2.0mm 180
designator J?, comment Current: 2A  (hidden comment: CCN200000-0102)
GP CONNECTOR 2 PIN PITCH=2.0mm 180; Value: 2.0mm; SAP: T690300002700; Vendor Name: 亿源电子有限公司; Vendor Code: 10009989; DIP&SMD: DIP; MFG: *; MFG Part: *; Type: Connector
footprint CONN PH 2P PH=2.0MM 180 (CONN PH 2P PH=2.0MM 180 H6.2mm)
pins: 1, 2

## CONN PH 3P WHITE PH=2.0mm 180
designator J?, comment Current: 2A  (hidden comment: CCN200000-0103)
GP CONNECTOR 3 PIN PITCH=2.0mm 180; Value: 2.0mm; SAP: T690300023500; Vendor Name: 亿源电子有限公司; Vendor Code: 10009989; DIP&SMD: DIP; MFG: *; MFG Part: *; Type: Connector
footprint CONN PH 3P PH=2.0MM 180 (CONN PH 3P PH=2.0MM 180 H6.2mm)
pins: 1, 2, 3

## CONN PH 4P WHITE PH=2.0mm 90
designator J?, comment Current: 2A  (hidden comment: CCN200000-0504)
GP CONNECTOR 4 PIN PITCH=2.0mm 90; Value: 2.0mm; SAP: T690300040900; Vendor Name: 亿源电子有限公司; Vendor Code: 10009989; DIP&SMD: DIP; MFG: *; MFG Part: *; Type: Connector
footprint CONN PH 4P PH=2.0MM 90 (CONN PH 4P PH=2.0MM 90 H5.15mm)
pins: 1, 2, 3, 4

## CONN PH 4P WHITE PH=2.0mm 180
designator J?, comment Current: 2A  (hidden comment: CCN200000-0104)
GP CONNECTOR 4 PIN PITCH=2.0mm 180; Value: 2.0mm; SAP: T690300023600; Vendor Name: 亿源电子有限公司; Vendor Code: 10009989; DIP&SMD: DIP; MFG: *; MFG Part: *; Type: Connector
footprint CONN PH 4P PH=2.0MM 180 (CONN PH 4P PH=2.0MM 180 H6.2mm)
pins: 1, 2, 3, 4